# Altium schematic symbol library Arkx.SchLib: 534 symbols (part 2 of 5)
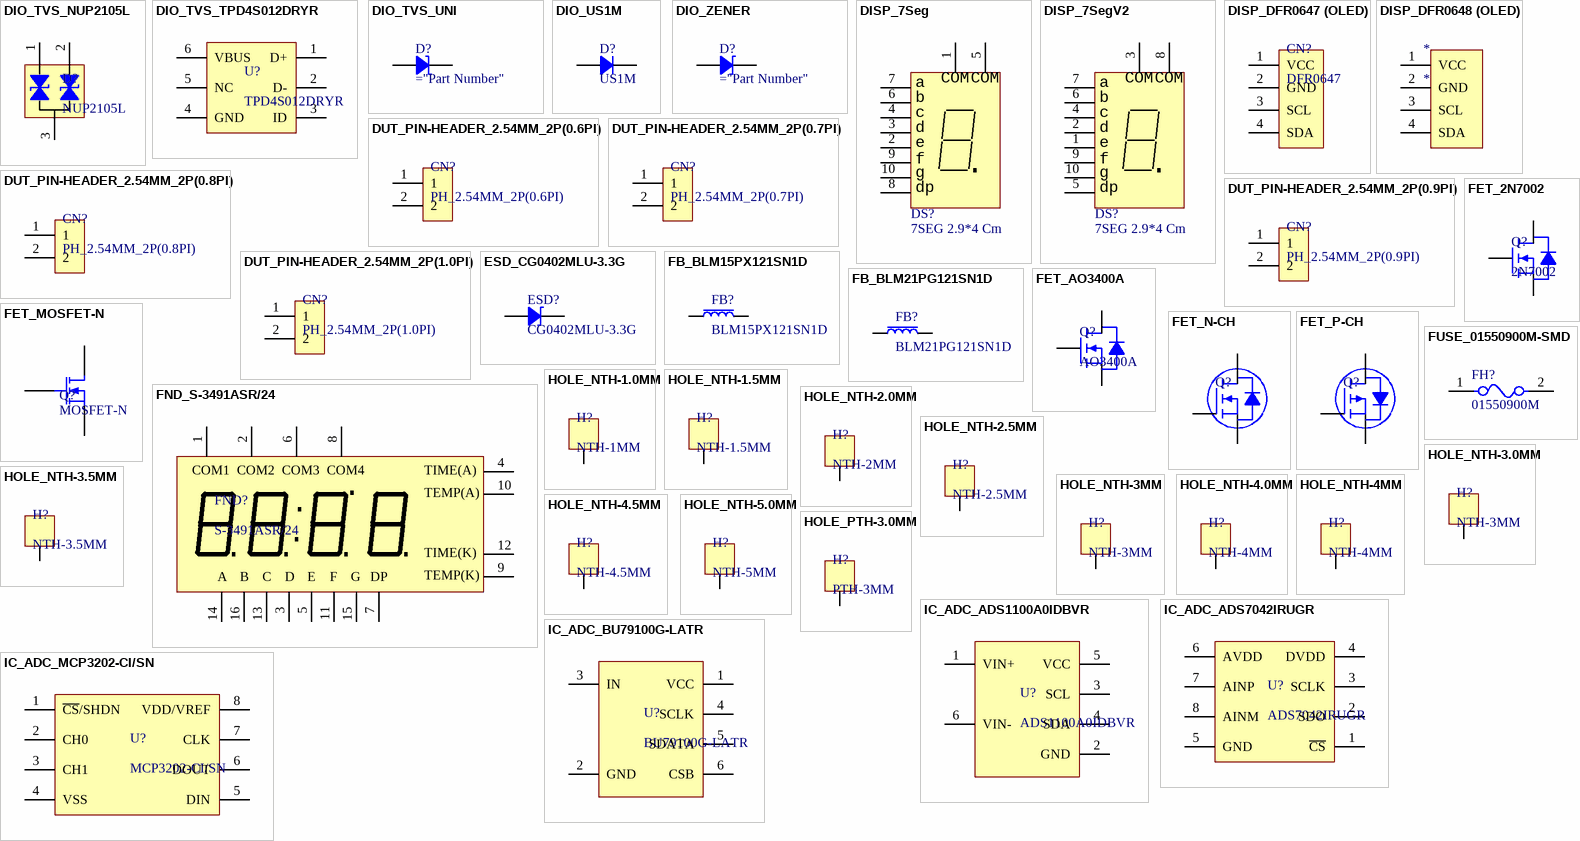
[diagram p26: symbols DIO_TVS_NUP2105L to IC_ADC_MCP3202-CI/SN]

## DISP_7Seg
designator DS?, comment 7SEG 2.9*4 Cm
Common Anode Seven-Segment Display, Right Hand Decimal; ASiD Part Number: 7Seg-AS
footprint DISP_7seg_42X29
footprint DISP_7Seg_70X48
footprint DISP_7seg_44X30.6
pins: 1 COM (power), 2 e, 3 d, 4 c, 5 COM (power), 6 b, 7 a, 8 dp, 9 f, 10 g

## DISP_7SegV2
designator DS?, comment 7SEG 2.9*4 Cm
Common Anode Seven-Segment Display, Right Hand Decimal; ASiD Part Number: 7Seg-AS
footprint 7seg_33.8X23.8
pins: 1 e, 2 d, 3 COM (power), 4 c, 5 dp, 6 b, 7 a, 8 COM (power), 9 f, 10 g

## DISP_DFR0647 (OLED)
designator CN?, comment DFR0647
DFR0647 / 128x32 I2C OLED Display / Control Chip : SSD1306
footprint DISP DFR0647 (OLED)
pins: 1 VCC, 2 GND, 3 SCL, 4 SDA

## DISP_DFR0648 (OLED)
designator *
pins: 1 VCC, 2 GND, 3 SCL, 4 SDA

## DUT_PIN-HEADER_2.54MM_2P(0.6PI)
designator CN?, comment PH_2.54MM_2P(0.6PI)
footprint DUT_CON_PIN_HEADER-2PIN(2.54MM)_0.6PI (Pin Header 2P 2.54mm)
pins: 1, 2

## DUT_PIN-HEADER_2.54MM_2P(0.7PI)
designator CN?, comment PH_2.54MM_2P(0.7PI)
footprint DUT_CON_PIN_HEADER-2PIN(2.54MM)_0.7PI (Pin Header 2P 2.54mm)
pins: 1, 2

## DUT_PIN-HEADER_2.54MM_2P(0.8PI)
designator CN?, comment PH_2.54MM_2P(0.8PI)
footprint DUT_CON_PIN_HEADER-2PIN(2.54MM)_0.8PI (Pin Header 2P 2.54mm)
pins: 1, 2

## DUT_PIN-HEADER_2.54MM_2P(0.9PI)
designator CN?, comment PH_2.54MM_2P(0.9PI)
footprint DUT_CON_PIN_HEADER-2PIN(2.54MM)_0.9PI (Pin Header 2P 2.54mm)
pins: 1, 2

## DUT_PIN-HEADER_2.54MM_2P(1.0PI)
designator CN?, comment PH_2.54MM_2P(1.0PI)
footprint DUT_CON_PIN_HEADER-2PIN(2.54MM)_1.0PI (Pin Header 2P 2.54mm)
pins: 1, 2

## ESD_CG0402MLU-3.3G
designator ESD?, comment CG0402MLU-3.3G
Varistor 1 Circuit Surface Mount, MLCV 0402 (1005 Metric); LCSC Part #: C2655393; JLCPCB Part Type: Extended Part
footprint RES 1005 (0402_inch) (Chip Resistor, 2-Leads, Body 1.0x0.5mm, IPC Medium Density)
pins: 1, 2

## FB_BLM15PX121SN1D
designator FB?, comment BLM15PX121SN1D
55mΩ ±25% 120Ω@100MHz 0402  Ferrite Beads ROHS; LCSC Part #: C88970; JLCPCB Part Type: Extended Part
footprint FB 1005 (0402_inch) (Chip Ferrite Bead, 2-Leads, Body 1.0x0.5mm, IPC Medium Density)
pins: 1, 2

## FB_BLM21PG121SN1D
designator FB?, comment BLM21PG121SN1D
3A 1 30mΩ 120Ω@100MHz ±25% 0805  Ferrite Beads ROHS; LCSC Part #: C79382; JLCPCB Part Type: Extended Part
footprint FB 2012 (0805_inch) (Chip Ferrite Bead, 2-Leads, Body 2.00x1.25mm, IPC Medium Density)
pins: 1, 2

## FET_2N7002
designator Q?, comment 2N7002
60V 115mA 200mW 7.5Ω@10V,500mA N Channel SOT-23  MOSFETs ROHS; LCSC Part #: C8545; JLCPCB Part Type: Basic Part
footprint SOT 23-3 (DIODES INCORPORATED) (SOT23, 3-Leads, Body 2.90x2.40mm, Pitch 0.95mm, IPC Medium Density)
pins: 1 G, 2 S, 3 D

## FET_AO3400A
designator Q?, comment AO3400A
30V 5.7A 26.5mΩ@10V,5.7A 1.4W N Channel SOT-23-3L  MOSFETs ROHS; LCSC Part #: C20917; JLCPCB Part Type: Basic Part
footprint SOT 23-3 (DIODES INCORPORATED) (SOT23, 3-Leads, Body 2.90x2.40mm, Pitch 0.95mm, IPC Medium Density)
pins: 1 G, 2 S, 3 D

## FET_MOSFET-N
designator Q?, comment MOSFET-N
N-Channel MOSFET; Published: 8-Jun-2000; LatestRevisionDate: 17-Jul-2002; LatestRevisionNote: Re-released for DXP Platform.; PackageVersion: 1995/1996; PackageReference: E3; Publisher: Altium Limited; PackageDescription: TO, Flat Index; 3 In-Line, Axial Leads; Body Dia. 4.6mm; Lead Dia. 0.5 mm (max)
footprint TO-220AB (TO, Thru-Hole, Vertical, Heatsink Mounted; 3 In-Line Leads; Pitch 2.54 mm)
simulation model NMOS (MOSFET-N)
footprint TO-262 (TO, Thru-Hole, Vertical, Heatsink Mounted; 3 In-Line Leads; Pitch 2.54 mm)
footprint TO220-Reverse
pins: 1 G, 2 D, 3 S

## FET_N-CH
designator Q?
pins: 1 G, 2 D, 3 S, 4 D

## FET_P-CH
designator Q?
pins: 1 G, 2 D, 3 S, 4 D

## FND_S-3491ASR/24
designator FND?, comment S-3491ASR/24
4-digit FND(Red) / Vf=1.8V / IFmax = 30mA / 100mW
pins: 1 DIG1_COM, 2 DIG2_COM, 3 D, 4 TIME_DOT(A), 5 E, 6 COM3_COM, 7 DP, 8 DIG4_COM, 9 TEMP_DOT(K), 10 TEMP_DOT(A), 11 F, 12 TIME_DOT(K), 13 C, 14 A, 15 G, 16 B
text: COM1; COM2; COM3; COM4; TIME(A); TEMP(A); TIME(K); TEMP(K)

## FUSE_01550900M-SMD
designator FH?, comment 01550900M
Fuse Block 10A 125V 1 Circuit Cartridge Surface Mount; LCSC Part #: C108518; JLCPCB Part Type: Extended Part
footprint FUSE 01550900M_SMD (Fuse Holder)
pins: 1, 2

## HOLE_NTH-1.0MM
designator H?, comment NTH-1MM
Non-Through Hole 1mm
footprint HOLE_NTH-1.0MM
pins: 1

## HOLE_NTH-1.5MM
designator H?, comment NTH-1.5MM
Non-Through Hole 1.5mm
footprint HOLE_NTH-1.5MM
pins: 1

## HOLE_NTH-2.0MM
designator H?, comment NTH-2MM
Non-Through Hole 2mm
footprint HOLE_NTH-2.0MM
pins: 1

## HOLE_NTH-2.5MM
designator H?, comment NTH-2.5MM
Non-Through Hole 2.5mm
footprint HOLE_NTH-2.5MM
pins: 1

## HOLE_NTH-3.0MM
designator H?, comment NTH-3MM
Non-Through Hole 3mm
footprint HOLE_NTH-3.0MM
pins: 1

## HOLE_NTH-3.5MM
designator H?, comment NTH-3.5MM
Non-Through Hole 3.5mm
footprint HOLE_NTH-3.5MM
pins: 1

## HOLE_NTH-3MM
designator H?, comment NTH-3MM
Non-Through Hole 3mm
footprint HOLE NTH-3MM (NON-THROUGH HOLE 3MM)
pins: 1

## HOLE_NTH-4.0MM
designator H?, comment NTH-4MM
Non-Through Hole 4mm
footprint HOLE_NTH-4.0MM
pins: 1

## HOLE_NTH-4.5MM
designator H?, comment NTH-4.5MM
Non-Through Hole 4.5mm
footprint HOLE_NTH-4.5MM
pins: 1

## HOLE_NTH-4MM
designator H?, comment NTH-4MM
Non-Through Hole 4mm
footprint HOLE NTH-4MM (NON-THROUGH HOLE 4MM)
pins: 1

## HOLE_NTH-5.0MM
designator H?, comment NTH-5MM
Non-Through Hole 5mm
footprint HOLE_NTH-5.0MM
pins: 1

## HOLE_PTH-3.0MM
designator H?, comment PTH-3MM
Plated-Through Hole 3mm
footprint HOLE PTH-3MM (PLATED-THROUGH HOLE 3MM)
pins: 1

## IC_ADC_ADS1100A0IDBVR
designator U?, comment ADS1100A0IDBVR
IC ADC 16BIT SIGMA-DELTA SOT23-6; LCSC Part #: C23361; JLCPCB Part Type: Extended Part
footprint SOT-23-6 (TI DBV PACKAGE) (SOT23, 6-Leads, Body 2.90x2.80mm, Pitch 0.95mm, IPC Medium Density)
pins: 1 VIN+, 2 GND, 3 SCL, 4 SDA, 5 VCC, 6 VIN-

## IC_ADC_ADS7042IRUGR
designator U?, comment ADS7042IRUGR
12Bit 1.65V~3.6V 1MHz SPI X2-QFN-8(1.5x1.5)  Analog To Digital Converters (ADCs) ROHS; JLCPCB Part Type: Extended Part; LCSC Part #: C701642
pins: 1 ~{CS}, 2 SDO, 3 SCLK, 4 DVDD, 5 GND, 6 AVDD, 7 AINP, 8 AINM

## IC_ADC_BU79100G-LATR
designator U?, comment BU79100G-LATR
Successive Approximation A/D Converter / 12 bit, 0.5 MSPS to 1 MSPS, 2.7 V to 5.25 V, / 1-channel, SPI Interface; LCSC Part #: None; JLCPCB Part Type: None
footprint IC_SOT-23-6 (SOT23, 6-Leads, Body 2.90x2.80mm, Pitch 0.95mm, IPC Medium Density)
pins: 1 VCC, 2 GND, 3 IN, 4 SCLK, 5 SDATA, 6 CSB

## IC_ADC_MCP3202-CI/SN
designator U?, comment MCP3202-CI/SN
2.7V~5.5V Dual Channel 12-Bit A/D Converter with SPI Serial Interface / SOIC-8; LCSC Part #: C56997; JLCPCB Part Type: Extended Part
footprint SOIC-8 150mil Wide (MICRO CHIP) (SOIC, 8-Leads, Body 4.90x3.90mm, Pitch 1.27mm, IPC Medium Density)
pins: 1 ~{CS}/SHDN, 2 CH0, 3 CH1, 4 VSS, 5 DIN, 6 DOUT, 7 CLK, 8 VDD/VREF

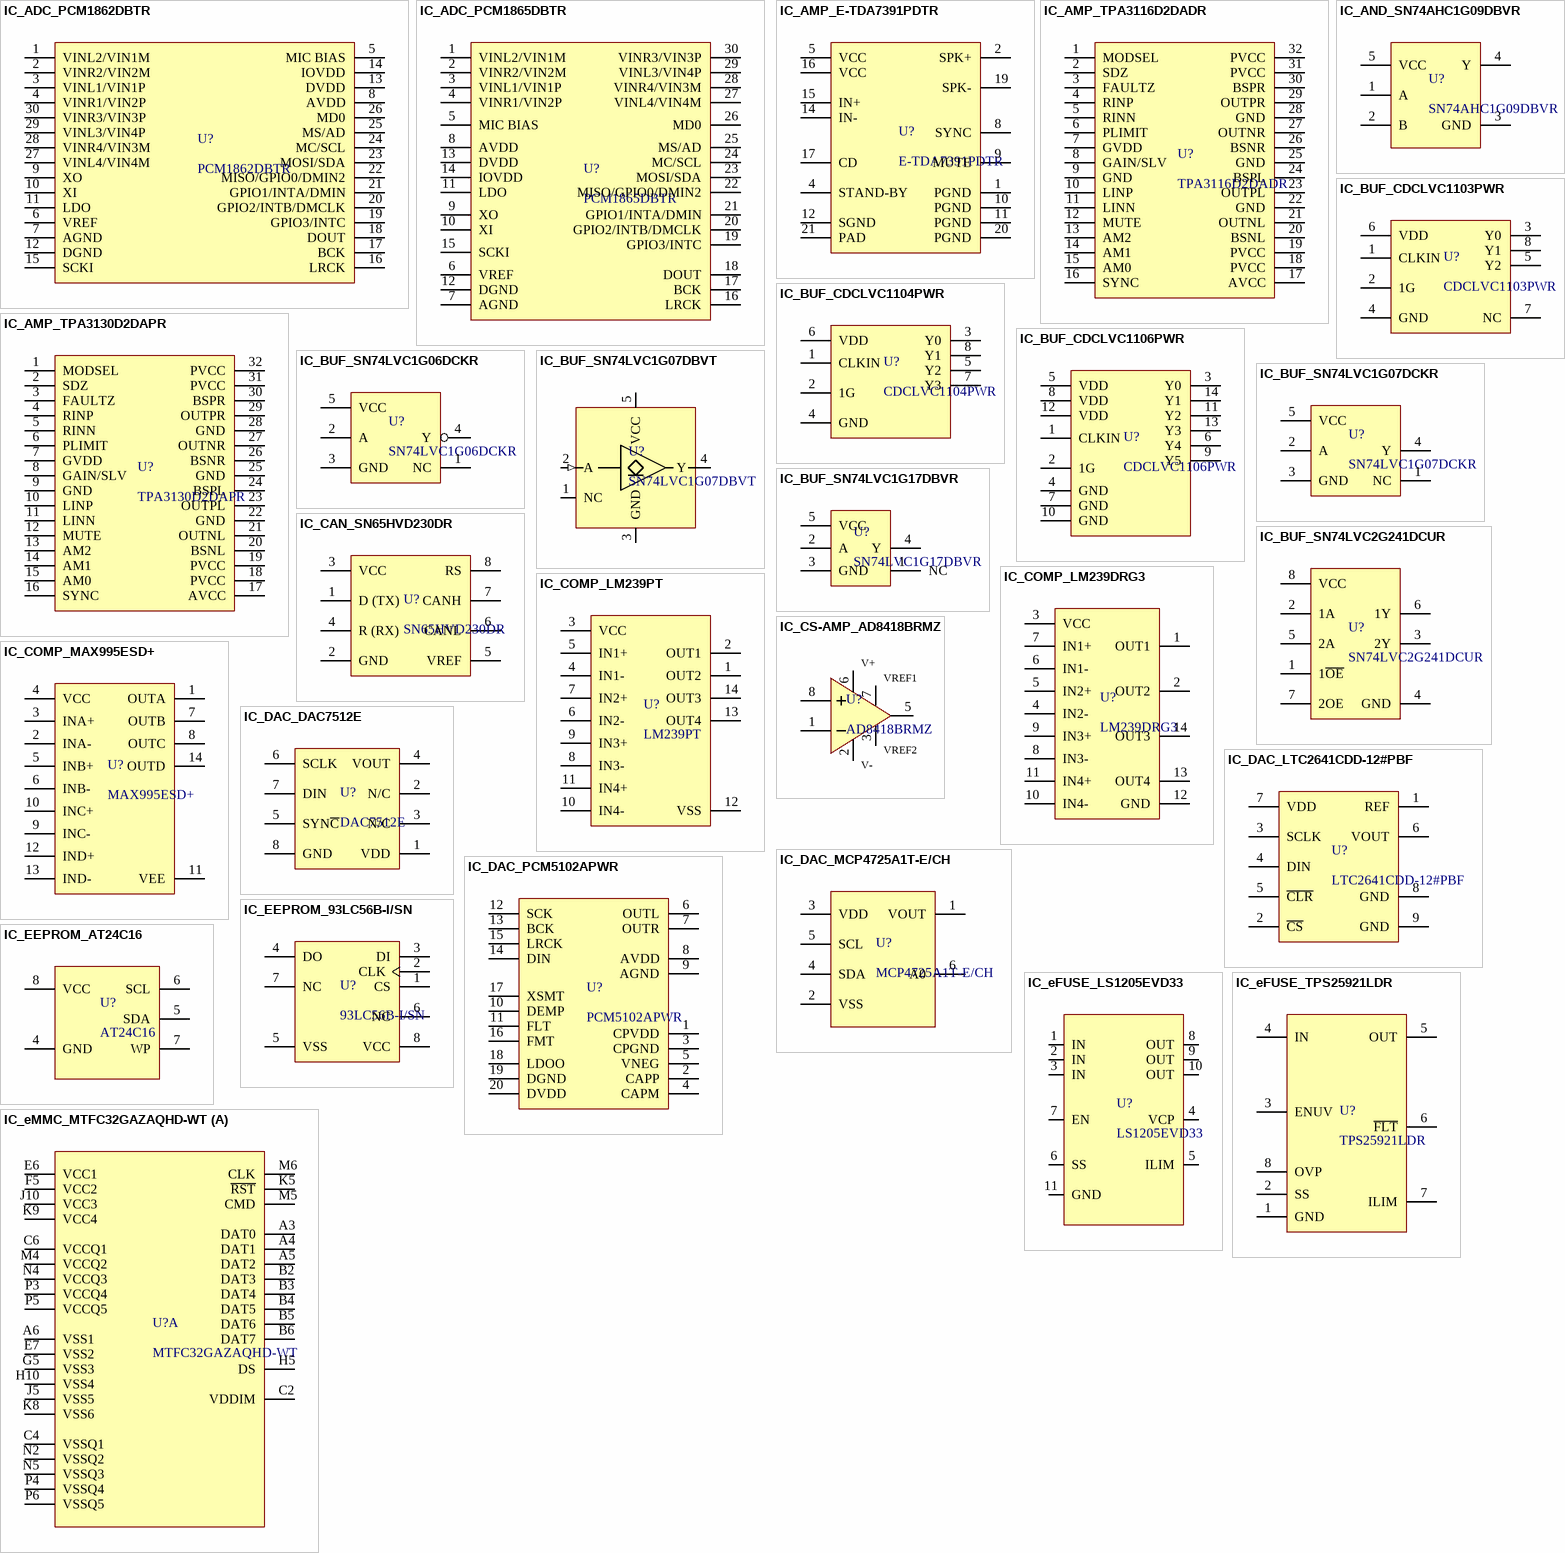
[diagram p7: symbols IC_ADC_PCM1862DBTR to IC_eMMC_MTFC32GAZAQHD-WT]

## IC_ADC_PCM1862DBTR
designator U?, comment PCM1862DBTR
IC ADC/AUDIO 24BIT 192K 30TSSOP; LCSC Part #: C544647; JLCPCB Part Type: Extended Part
pins: 1 VINL2/VIN1M, 2 VINR2/VIN2M, 3 VINL1/VIN1P, 4 VINR1/VIN2P, 5 MIC BIAS, 6 VREF, 7 AGND, 8 AVDD, 9 XO, 10 XI, 11 LDO, 12 DGND, 13 DVDD, 14 IOVDD, 15 SCKI, 16 LRCK, 17 BCK, 18 DOUT, 19 GPIO3/INTC, 20 GPIO2/INTB/DMCLK, 21 GPIO1/INTA/DMIN, 22 MISO/GPIO0/DMIN2, 23 MOSI/SDA, 24 MC/SCL, 25 MS/AD, 26 MD0, 27 VINL4/VIN4M, 28 VINR4/VIN3M, 29 VINL3/VIN4P, 30 VINR3/VIN3P

## IC_ADC_PCM1865DBTR
designator U?, comment PCM1865DBTR
Audio A/D Converter ICs S/W Controlled 110dB 4ch Audio ADC; LCSC Part #: C181312; JLCPCB Part Type: Extended Part
footprint TSSOP-30_DBT0030A (TI) (TSSOP Package , 30-Leades, 4.40 x 7.80 mm Body , Pitch 0.50 mm)
pins: 1 VINL2/VIN1M, 2 VINR2/VIN2M, 3 VINL1/VIN1P, 4 VINR1/VIN2P, 5 MIC BIAS, 6 VREF, 7 AGND, 8 AVDD, 9 XO, 10 XI, 11 LDO, 12 DGND, 13 DVDD, 14 IOVDD, 15 SCKI, 16 LRCK, 17 BCK, 18 DOUT, 19 GPIO3/INTC, 20 GPIO2/INTB/DMCLK, 21 GPIO1/INTA/DMIN, 22 MISO/GPIO0/DMIN2, 23 MOSI/SDA, 24 MC/SCL, 25 MS/AD, 26 MD0, 27 VINL4/VIN4M, 28 VINR4/VIN3M, 29 VINL3/VIN4P, 30 VINR3/VIN3P

## IC_AMP_E-TDA7391PDTR
designator U?, comment E-TDA7391PDTR
Audio Amp Speaker 1-CH Mono 40W Class-AB Automotive 20-Pin PowerSO T/R
pins: 1 PGND, 2 SPK+, 4 STAND-BY, 5 VCC, 8 SYNC, 9 MUTE, 10 PGND, 11 PGND, 12 SGND, 14 IN-, 15 IN+, 16 VCC, 17 CD, 19 SPK-, 20 PGND, 21 PAD

## IC_AMP_TPA3116D2DADR
designator U?, comment TPA3116D2DADR
50-W stereo, 100-W mono, 4.5- to 26-V supply, analog input Class-D audio amplifier w/ SpeakerGuard™; LCSC Part #: C50144; JLCPCB Part Type: Extended Part
pins: 1 MODSEL, 2 SDZ, 3 FAULTZ, 4 RINP, 5 RINN, 6 PLIMIT, 7 GVDD, 8 GAIN/SLV, 9 GND, 10 LINP, 11 LINN, 12 MUTE, 13 AM2, 14 AM1, 15 AM0, 16 SYNC, 17 AVCC, 18 PVCC, 19 PVCC, 20 BSNL, 21 OUTNL, 22 GND, 23 OUTPL, 24 BSPL, 25 GND, 26 BSNR, 27 OUTNR, 28 GND, 29 OUTPR, 30 BSPR, 31 PVCC, 32 PVCC

## IC_AMP_TPA3130D2DAPR
designator U?, comment TPA3130D2DAPR
15-W stereo, 30-W mono, 4.5- to 26-V supply, analog input Class-D audio amplifier w/ filter free; LCSC Part #: C95206; JLCPCB Part Type: Extended Part
footprint HTSSOP-32_DAP (TI)
pins: 1 MODSEL, 2 SDZ, 3 FAULTZ, 4 RINP, 5 RINN, 6 PLIMIT, 7 GVDD, 8 GAIN/SLV, 9 GND, 10 LINP, 11 LINN, 12 MUTE, 13 AM2, 14 AM1, 15 AM0, 16 SYNC, 17 AVCC, 18 PVCC, 19 PVCC, 20 BSNL, 21 OUTNL, 22 GND, 23 OUTPL, 24 BSPL, 25 GND, 26 BSNR, 27 OUTNR, 28 GND, 29 OUTPR, 30 BSPR, 31 PVCC, 32 PVCC

## IC_AND_SN74AHC1G09DBVR
designator U?, comment SN74AHC1G09DBVR
AND Gate IC 1 Channel Open Drain SOT-23-5; LCSC Part #: C840099; JLCPCB Part Type: Extended Part
footprint SOT-23-5 (TI DBV PACKAGE) (SOT23, 5-Leads, Body 2.90x2.80mm, Pitch 0.95mm, IPC Medium Density)
pins: 1 A, 2 B, 3 GND, 4 Y, 5 VCC

## IC_BUF_CDCLVC1103PWR
designator U?, comment CDCLVC1103PWR
Low jitter, 1:3 LVCMOS fan-out clock buffer; LCSC Part #: C555453; JLCPCB Part Type: Extended Part
footprint TSSOP-8_PW (TI) (TSSOP, 8-Leads, Body 3.00x4.40mm, Pitch 0.65mm, IPC Medium Density)
pins: 1 CLKIN, 2 1G, 3 Y0, 4 GND, 5 Y2, 6 VDD, 7 NC, 8 Y1

## IC_BUF_CDCLVC1104PWR
designator U?, comment CDCLVC1104PWR
Low jitter, 1:4 LVCMOS fan-out clock buffer; LCSC Part #: C485518; JLCPCB Part Type: Extended Part
pins: 1 CLKIN, 2 1G, 3 Y0, 4 GND, 5 Y2, 6 VDD, 7 Y3, 8 Y1

## IC_BUF_CDCLVC1106PWR
designator U?, comment CDCLVC1106PWR
Low jitter, 1:6 LVCMOS fan-out clock buffer; LCSC Part #: C56506; JLCPCB Part Type: Extended Part
pins: 1 CLKIN, 2 1G, 3 Y0, 4 GND, 5 VDD, 6 Y4, 7 GND, 8 VDD, 9 Y5, 10 GND, 11 Y2, 12 VDD, 13 Y3, 14 Y1

## IC_BUF_SN74LVC1G06DCKR
designator U?, comment SN74LVC1G06DCKR
Inverter IC 1 Channel Open Drain SC-70-5; LCSC Part #: C7828; JLCPCB Part Type: Extended Part
footprint IC_SC-70-5
pins: 1 NC, 2 A, 3 GND, 4 Y, 5 VCC

## IC_BUF_SN74LVC1G07DBVT
designator U?, comment SN74LVC1G07DBVT
Single Buffer/Driver With Open-Drain Output / IC BUF NON-INVERT 5.5V SOT23-5; LCSC Part #: C2867373; JLCPCB Part Type: Extended Part
footprint SOT-23-5 (TI DBV PACKAGE) (SOT23, 5-Leads, Body 2.90x2.80mm, Pitch 0.95mm, IPC Medium Density)
pins: 1 NC, 2 A (in), 3 GND (power), 4 Y (oc), 5 VCC (power)

## IC_BUF_SN74LVC1G07DCKR
designator U?, comment SN74LVC1G07DCKR
Buffer, Non-Inverting 1 Element 1 Bit per Element Open Drain Output SC-70-5; LCSC Part #: C7830; JLCPCB Part Type: Extended Part
footprint IC_SC-70-5
pins: 1 NC, 2 A, 3 GND, 4 Y, 5 VCC

## IC_BUF_SN74LVC1G17DBVR
designator U?, comment SN74LVC1G17DBVR
IC BUF NON-INVERT 5.5V SOT23-5
footprint SOT-23-5 (TI DBV PACKAGE) (SOT23, 5-Leads, Body 2.90x2.80mm, Pitch 0.95mm, IPC Medium Density)
pins: 1 NC, 2 A, 3 GND, 4 Y, 5 VCC

## IC_BUF_SN74LVC2G241DCUR
designator U?, comment SN74LVC2G241DCUR
Buffer, Non-Inverting 2 Element 1 Bit per Element 3-State Output 8-VSSOP; LCSC Part #: C10430; JLCPCB Part Type: Extended Part
footprint IC_VSSOP-8
pins: 1 1~{OE}, 2 1A, 3 2Y, 4 GND, 5 2A, 6 1Y, 7 2OE, 8 VCC

## IC_CAN_SN65HVD230DR
designator U?, comment SN65HVD230DR
IC TRANSCEIVER HALF 1/1 8SOIC; LCSC Part #: C12084; JLCPCB Part Type: Basic Part
footprint SOIC-8 R8 (ANALOG DEV) (SOIC, 8-Leads, Body 4.90x3.90mm, Pitch 1.27mm, IPC Medium Density)
pins: 1 D (TX), 2 GND, 3 VCC, 4 R (RX), 5 VREF, 6 CANL, 7 CANH, 8 RS

## IC_COMP_LM239DRG3
designator U?, comment LM239DRG3
IC COMPARATOR DIFF QUAD 14SOIC
footprint SOIC-14 (TI D package) (SOP, 14-Leads, Body 8.65x3.90mm, Pitch 1.27mm, IPC Medium Density)
pins: 1 OUT1, 2 OUT2, 3 VCC, 4 IN2-, 5 IN2+, 6 IN1-, 7 IN1+, 8 IN3-, 9 IN3+, 10 IN4-, 11 IN4+, 12 GND, 13 OUT4, 14 OUT3

## IC_COMP_LM239PT
designator U?, comment LM239PT
IC COMPARTR QUAD BIPOLAR 14TSSOP; LCSC Part #: C283294; JLCPCB Part Type: Extended Part
footprint TSSOP-14 (TSSOP, 14-Leads, Body 5.00x4.40mm, Pitch 0.65mm, IPC Medium Density)
pins: 1 OUT2, 2 OUT1, 3 VCC, 4 IN1-, 5 IN1+, 6 IN2-, 7 IN2+, 8 IN3-, 9 IN3+, 10 IN4-, 11 IN4+, 12 VSS, 13 OUT4, 14 OUT3

## IC_COMP_MAX995ESD+
designator U?, comment MAX995ESD+
IC COMPARATOR R-R 14-SOIC High-Speed, Micropower, Low-Voltage, / Rail-to-Rail I/O Comparators; LCSC Part #: C236833; JLCPCB Part Type: Extended Part
footprint SOIC-14 (TI D package) (SOP, 14-Leads, Body 8.65x3.90mm, Pitch 1.27mm, IPC Medium Density)
pins: 1 OUTA, 2 INA-, 3 INA+, 4 VCC, 5 INB+, 6 INB-, 7 OUTB, 8 OUTC, 9 INC-, 10 INC+, 11 VEE, 12 IND+, 13 IND-, 14 OUTD

## IC_CS-AMP_AD8418BRMZ
designator U?, comment AD8418BRMZ
Current Sense Amplifiers Zero Drift ,Precision Current Sense AMP / MSOP-8; LCSC Part #: C147928; JLCPCB Part Type: Extended Part
footprint MSOP-8 DGN (TI) (MSOP, 8-Leads, Body 3.1x3.1mm (max), Pitch 0.65mm, IPC Medium Density)
pins: 1 IN-, 2 GND, 3 VREF2, 5 OUT, 6 VS, 7 VREF1, 8 IN+
text: V+; V-

## IC_DAC_DAC7512E
designator U?, comment DAC7512E
Low-Power, Rail-to-Rail Output, 12-Bit Serial Input DIGITAL-TO-ANALOG CONVERTER / VDD : 2.7 ~ 5.5V / MSOP-8
footprint MSOP-8 DGN (TI) (MSOP, 8-Leads, Body 3.1x3.1mm (max), Pitch 0.65mm, IPC Medium Density)
pins: 1 VDD, 2 N/C, 3 N/C, 4 VOUT, 5 SYN~{C}, 6 SCLK, 7 DIN, 8 GND

## IC_DAC_LTC2641CDD-12#PBF
designator U?, comment LTC2641CDD-12#PBF
1us SPI 2.7V~5.5V ±0.5LSB 12Bit DFN-8-EP(3x3)  Digital To Analog Converters (DACs) ROHS; JLCPCB Part Type: Extended Part; LCSC Part #: C682333
pins: 1 REF, 2 ~{CS}, 3 SCLK, 4 DIN, 5 ~{CLR}, 6 VOUT, 7 VDD, 8 GND, 9 GND

## IC_DAC_MCP4725A1T-E/CH
designator U?, comment MCP4725A1T-E/CH
IC DAC 12BIT V-OUT SOT23-6; LCSC Part #: C61423; JLCPCB Part Type: Extended Part
footprint SOT-23-6 (TI DBV PACKAGE) (SOT23, 6-Leads, Body 2.90x2.80mm, Pitch 0.95mm, IPC Medium Density)
pins: 1 VOUT, 2 VSS, 3 VDD, 4 SDA, 5 SCL, 6 A0

## IC_DAC_PCM5102APWR
designator U?, comment PCM5102APWR
2VRMS DirectPath™, 112dB Audio Stereo DAC with 32-bit, 384kHz PCM Interface; LCSC Part #: C107671; JLCPCB Part Type: Extended Part
footprint TSSOP-20 PW (TI) (TSSOP, 20-Leads, Body 6.50x4.40mm, Pitch 0.65mm, IPC Medium Density)
pins: 1 CPVDD, 2 CAPP, 3 CPGND, 4 CAPM, 5 VNEG, 6 OUTL, 7 OUTR, 8 AVDD, 9 AGND, 10 DEMP, 11 FLT, 12 SCK, 13 BCK, 14 DIN, 15 LRCK, 16 FMT, 17 XSMT, 18 LDOO, 19 DGND, 20 DVDD

## IC_EEPROM_93LC56B-I/SN
designator U?, comment 93LC56B-I/SN
EEPROM Memory IC 2Kbit Microwire 2 MHz 8-SOIC; LCSC Part #: C183620; JLCPCB Part Type: Extended Part
footprint IC_SOIC-8 (4.90x3.90mm) (SOIC, 8-Leads, Body 4.90x3.90mm, Pitch 1.27mm, IPC Medium Density)
pins: 1 CS, 2 CLK, 3 DI, 4 DO, 5 VSS, 6 NC, 7 NC, 8 VCC

## IC_EEPROM_AT24C16
designator U?, comment AT24C16
IC EEPROM 16KBIT I2C 1MHZ 8TSSOP; LCSC Part #: C112954; JLCPCB Part Type: Extended Part
footprint TSSOP-8_PW (TI) (TSSOP, 8-Leads, Body 3.00x4.40mm, Pitch 0.65mm, IPC Medium Density)
pins: 4 GND, 5 SDA, 6 SCL, 7 WP, 8 VCC

## IC_eFUSE_LS1205EVD33
designator U?, comment LS1205EVD33
18V, 5A eFuse with Programmable Current Limit and Output Voltage Clamp, 10-DFN (3x3); LCSC Part #: C6653278; JLCPCB Part Type: Extended Part
footprint IC_DFN_3x3_10L
pins: 1 IN (power), 2 IN (power), 3 IN (power), 4 VCP, 5 ILIM, 6 SS, 7 EN, 8 OUT (power), 9 OUT (power), 10 OUT (power), 11 GND (power)

## IC_eFUSE_TPS25921LDR
designator U?, comment TPS25921LDR
4.5V - 18V, 1.6A eFuse with Precise Current Limit and Over Voltage Protection / 8SOIC
footprint SOIC-8 R8 (ANALOG DEV) (SOIC, 8-Leads, Body 4.90x3.90mm, Pitch 1.27mm, IPC Medium Density)
pins: 1 GND, 2 SS, 3 ENUV, 4 IN, 5 OUT, 6 ~{FLT}, 7 ILIM, 8 OVP

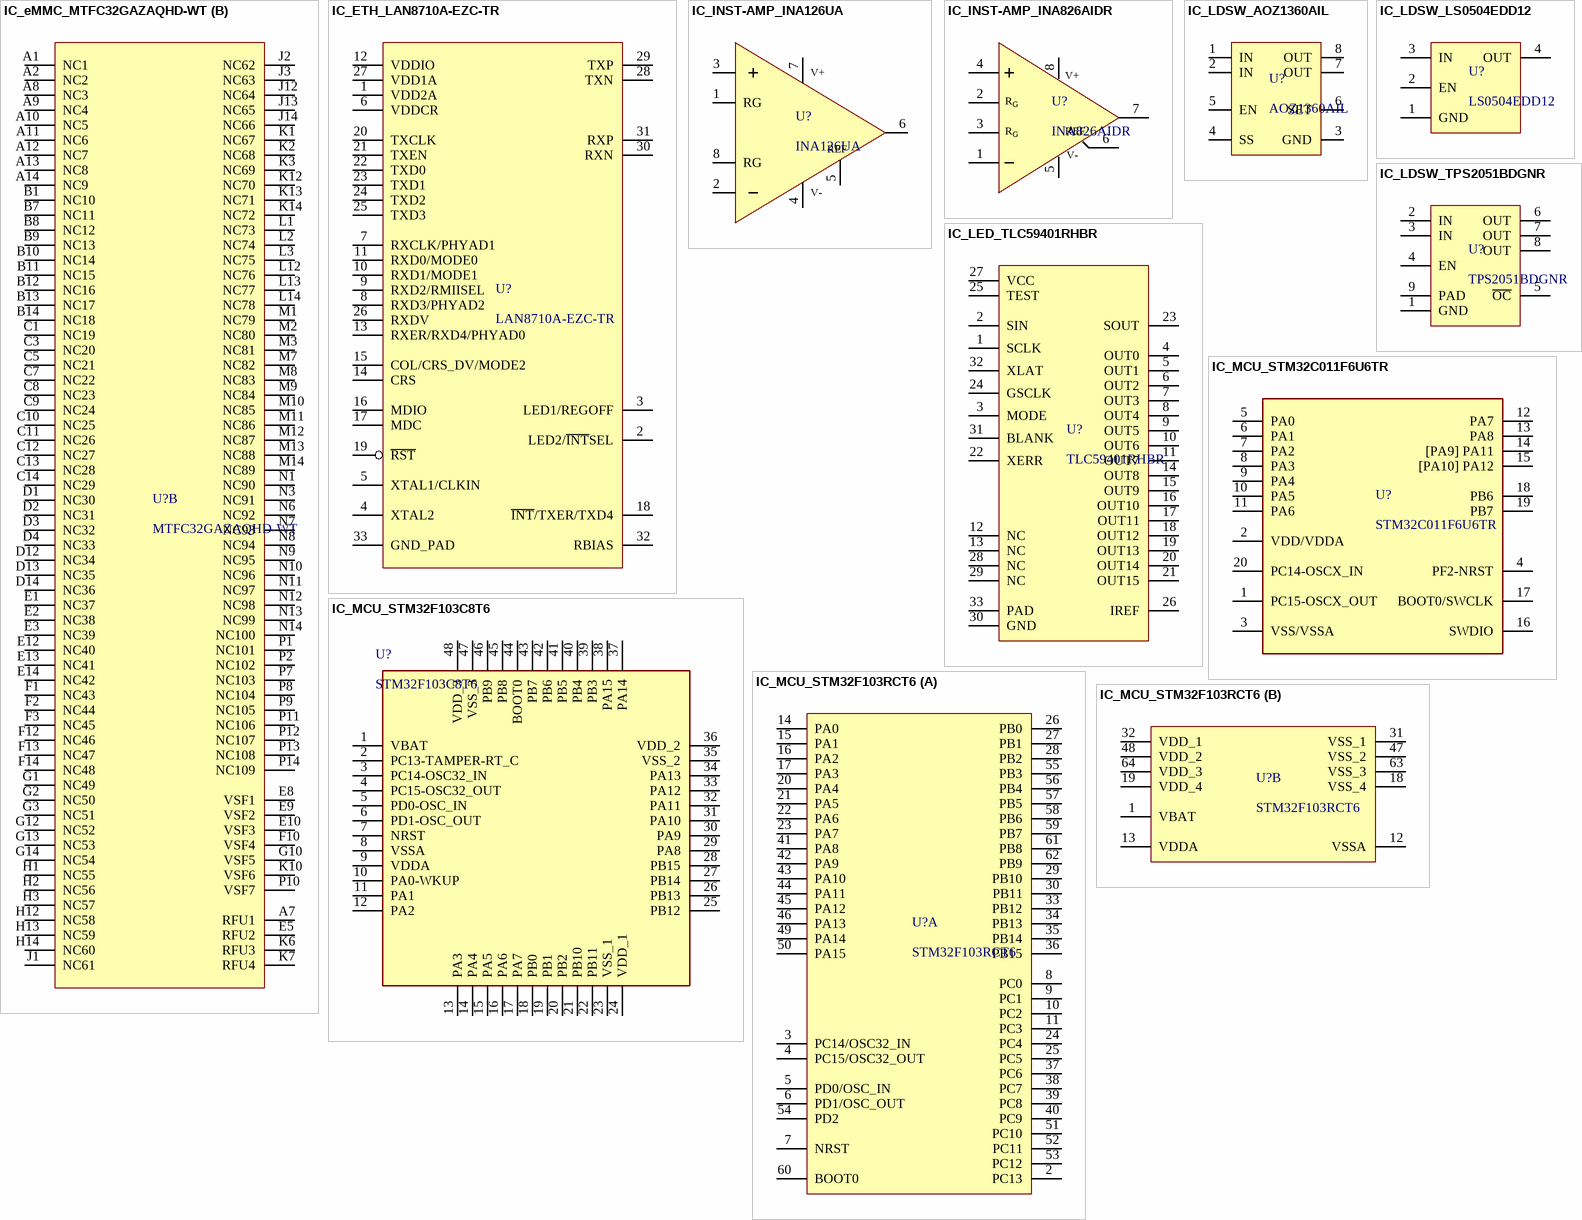
[diagram p8: symbols IC_eMMC_MTFC32GAZAQHD-WT to IC_MCU_STM32F103RCT6]

## IC_eMMC_MTFC32GAZAQHD-WT
designator U?, comment MTFC32GAZAQHD-WT
FLASH - NAND Memory IC 256Gbit MMC 200 MHz 153-VFBGA (11.5x13); LCSC Part #: C5330430; JLCPCB Part Type: Extended Part
footprint IC_VFBGA-153 (Footprint for MTFC32GAZAQHD-AIT)
part A pins: A3 DAT0, A4 DAT1, A5 DAT2, A6 VSS1, B2 DAT3, B3 DAT4, B4 DAT5, B5 DAT6, B6 DAT7, C2 VDDIM, C4 VSSQ1, C6 VCCQ1, E6 VCC1, E7 VSS2, F5 VCC2, G5 VSS3, H5 DS, H10 VSS4, J5 VSS5, J10 VCC3, K5 ~{RST}, K8 VSS6, K9 VCC4, M4 VCCQ2, M5 CMD, M6 CLK, N2 VSSQ2, N4 VCCQ3, N5 VSSQ3, P3 VCCQ4, P4 VSSQ4, P5 VCCQ5, P6 VSSQ5
part B pins: A1 NC1, A2 NC2, A7 RFU1, A8 NC3, A9 NC4, A10 NC5, A11 NC6, A12 NC7, A13 NC8, A14 NC9, B1 NC10, B7 NC11, B8 NC12, B9 NC13, B10 NC14, B11 NC15, B12 NC16, B13 NC17, B14 NC18, C1 NC19, C3 NC20, C5 NC21, C7 NC22, C8 NC23, C9 NC24, C10 NC25, C11 NC26, C12 NC27, C13 NC28, C14 NC29, D1 NC30, D2 NC31, D3 NC32, D4 NC33, D12 NC34, D13 NC35, D14 NC36, E1 NC37, E2 NC38, E3 NC39, E5 RFU2, E8 VSF1, E9 VSF2, E10 VSF3, E12 NC40, E13 NC41, E14 NC42, F1 NC43, F2 NC44, F3 NC45, F10 VSF4, F12 NC46, F13 NC47, F14 NC48, G1 NC49, G2 NC50, G3 NC51, G10 VSF5, G12 NC52, G13 NC53, G14 NC54, H1 NC55, H2 NC56, H3 NC57, H12 NC58, H13 NC59, H14 NC60, J1 NC61, J2 NC62, J3 NC63, J12 NC64, J13 NC65, J14 NC66, K1 NC67, K2 NC68, K3 NC69, K6 RFU3, K7 RFU4, K10 VSF6, K12 NC70, K13 NC71, K14 NC72, L1 NC73, L2 NC74, L3 NC75, L12 NC76, L13 NC77, L14 NC78, M1 NC79, M2 NC80, M3 NC81, M7 NC82, M8 NC83, M9 NC84, M10 NC85, M11 NC86, M12 NC87, M13 NC88, M14 NC89, N1 NC90, N3 NC91, N6 NC92, N7 NC93, N8 NC94, N9 NC95, N10 NC96, N11 NC97, N12 NC98, N13 NC99, N14 NC100, P1 NC101, P2 NC102, P7 NC103, P8 NC104, P9 NC105, P10 VSF7, P11 NC106, P12 NC107, P13 NC108, P14 NC109

## IC_ETH_LAN8710A-EZC-TR
designator U?, comment LAN8710A-EZC-TR
4/4 Transceiver Full MII, RMII 32-QFN (5x5); LCSC Part #: C46185; JLCPCB Part Type: Extended Part
footprint IC_QFN-32 (5x5)
pins: 1 VDD2A, 2 LED2/~{INT}SEL, 3 LED1/REGOFF, 4 XTAL2, 5 XTAL1/CLKIN, 6 VDDCR, 7 RXCLK/PHYAD1, 8 RXD3/PHYAD2, 9 RXD2/RMIISEL, 10 RXD1/MODE1, 11 RXD0/MODE0, 12 VDDIO, 13 RXER/RXD4/PHYAD0, 14 CRS, 15 COL/CRS_DV/MODE2, 16 MDIO, 17 MDC, 18 ~{INT}/TXER/TXD4, 19 ~{RST}, 20 TXCLK, 21 TXEN, 22 TXD0, 23 TXD1, 24 TXD2, 25 TXD3, 26 RXDV, 27 VDD1A, 28 TXN, 29 TXP, 30 RXN, 31 RXP, 32 RBIAS, 33 GND_PAD

## IC_INST-AMP_INA126UA
designator U?, comment INA126UA
36V microPower (175-µA), 250-µV offset, precision instrumentation amplifier; LCSC Part #: C97254; JLCPCB Part Type: Extended Part
pins: 1 RG, 2 IN-, 3 IN+, 4 V-, 5 REF, 6 VOUT, 7 V+, 8 RG

## IC_INST-AMP_INA826AIDR
designator U?, comment INA826AIDR
35nA 40uV 1MHz Single SOIC-8  Instrumentation OpAmps ROHS; LCSC Part #: C38433; JLCPCB Part Type: Extended Part
footprint IC_SOIC-8 (4.90x3.90mm) (SOIC, 8-Leads, Body 4.90x3.90mm, Pitch 1.27mm, IPC Medium Density)
pins: 1 IN-, 2 RG+, 3 RG-, 4 IN+, 5 V-, 6 REF, 7 VOUT, 8 V+
text: R; G

## IC_LDSW_AOZ1360AIL
designator U?, comment AOZ1360AIL
IC PWR SWITCH P-CHAN 1:1 8SOIC; JLCPCB Part #: C146821; JLCPCB Part Type: Extended Part
footprint SOIC-8 R8 (ANALOG DEV) (SOIC, 8-Leads, Body 4.90x3.90mm, Pitch 1.27mm, IPC Medium Density)
pins: 1 IN, 2 IN, 3 GND, 4 SS, 5 EN, 6 SET, 7 OUT, 8 OUT

## IC_LDSW_LS0504EDD12
designator U?, comment LS0504EDD12
5V, 4A LOW RON LOAD SWITCH; Supplier 1: Digi-Key; Supplier 2: Arrow Electronics; Supplier 3: Mouser; Supplier Part Number 1: 18-LS0504EDD12CT-ND; Supplier Part Number 2: LS0504EDD12; Supplier Part Number 3: 576-LS0504EDD12
pins: 1 GND, 2 EN, 3 IN, 4 OUT

## IC_LDSW_TPS2051BDGNR
designator U?, comment TPS2051BDGNR
Power Switch/Driver 1:1 N-Channel 500mA 8-HVSSOP; LCSC Part #: C468243; JLCPCB Part Type: Extended Part
footprint IC_HVSSOP-8
pins: 1 GND, 2 IN, 3 IN, 4 EN, 5 ~{OC}, 6 OUT, 7 OUT, 8 OUT, 9 PAD

## IC_LED_TLC59401RHBR
designator U?, comment TLC59401RHBR
IC LED DRVR LINEAR 120MA 32VQFN; JLCPCB Part Type: Global Parts Sourcing
footprint VQFN-32 (TI drawing - RHB) (QFN, 32-Leads, Body 5.00x5.00mm, Pitch 0.50mm, Thermal Pad 3.45x3.45mm, IPC Medium Density)
pins: 1 SCLK, 2 SIN, 3 MODE, 4 OUT0, 5 OUT1, 6 OUT2, 7 OUT3, 8 OUT4, 9 OUT5, 10 OUT6, 11 OUT7, 12 NC, 13 NC, 14 OUT8, 15 OUT9, 16 OUT10, 17 OUT11, 18 OUT12, 19 OUT13, 20 OUT14, 21 OUT15, 22 XERR, 23 SOUT, 24 GSCLK, 25 TEST, 26 IREF, 27 VCC, 28 NC, 29 NC, 30 GND, 31 BLANK, 32 XLAT, 33 PAD

## IC_MCU_STM32C011F6U6TR
designator U?, comment STM32C011F6U6TR
ARM® Cortex®-M0+ STM32C0 Microcontroller IC 32-Bit 48MHz 32KB (32K x 8) FLASH 20-UFQFPN (3x3); Manufacturer: STMicroelectronics; Manufacturer Part Number: STM32C011F6U6TR; Case/Package: UFQFPN20; LCSC Part #: C5456206; JLCPCB Part Type: Extended Part
footprint IC_UFQFPN-20 (ST_UFQFPN-20_3x3mm_P0.5mm)
pins: 1 PC15-OSCX_OUT, 2 VDD/VDDA, 3 VSS/VSSA, 4 PF2-NRST, 5 PA0, 6 PA1, 7 PA2, 8 PA3, 9 PA4, 10 PA5, 11 PA6, 12 PA7, 13 PA8, 14 [PA9] PA11, 15 [PA10] PA12, 16 SWDIO, 17 BOOT0/SWCLK, 18 PB6, 19 PB7, 20 PC14-OSCX_IN

## IC_MCU_STM32F103C8T6
designator U?, comment STM32F103C8T6
ARM® Cortex®-M3 STM32F1 Microcontroller IC 32-Bit 72MHz 64KB (64K x 8) FLASH 48-LQFP (7x7); Manufacturer: STMicroelectronics; Alternate Part Number-1: NA; Manufacturer Part Number: STM32F103C8T6; Case/Package: LQFP48; Supplier-1: LCSC; Supplier Part Number-1: STM32F103C8T6
footprint LQFP-48_19.6_393_58X11_SMD (48LQFP)
pins: 1 VBAT, 2 PC13-TAMPER-RT_C, 3 PC14-OSC32_IN, 4 PC15-OSC32_OUT, 5 PD0-OSC_IN, 6 PD1-OSC_OUT, 7 NRST, 8 VSSA, 9 VDDA, 10 PA0-WKUP, 11 PA1, 12 PA2, 13 PA3, 14 PA4, 15 PA5, 16 PA6, 17 PA7, 18 PB0, 19 PB1, 20 PB2, 21 PB10, 22 PB11, 23 VSS_1, 24 VDD_1, 25 PB12, 26 PB13, 27 PB14, 28 PB15, 29 PA8, 30 PA9, 31 PA10, 32 PA11, 33 PA12, 34 PA13, 35 VSS_2, 36 VDD_2, 37 PA14, 38 PA15, 39 PB3, 40 PB4, 41 PB5, 42 PB6, 43 PB7, 44 BOOT0, 45 PB8, 46 PB9, 47 VSS_3, 48 VDD_3

## IC_MCU_STM32F103RCT6
designator U?, comment STM32F103RCT6
48KB 256K@x8bit 2V~3.6V -40℃~+85℃ ARM Cortex-M3 1@x2ch/12bit 1@x16ch/12bit Internal oscillator included  72MHz 51 LQFP-64_10x10x05P  Microcontroller Units (MCUs/MPUs/SOCs) ROHS; LCSC Part #: C8323; JLCPCB Part Type: Extended Part
footprint LQFP-64_10x10mm (ST) (LQFP, 64-Leads, Body 10.00x10.00mm, Pitch 0.50mm, IPC Medium Density)
part A pins: 2 PC13, 3 PC14/OSC32_IN, 4 PC15/OSC32_OUT, 5 PD0/OSC_IN, 6 PD1/OSC_OUT, 7 NRST, 8 PC0, 9 PC1, 10 PC2, 11 PC3, 14 PA0, 15 PA1, 16 PA2, 17 PA3, 20 PA4, 21 PA5, 22 PA6, 23 PA7, 24 PC4, 25 PC5, 26 PB0, 27 PB1, 28 PB2, 29 PB10, 30 PB11, 33 PB12, 34 PB13, 35 PB14, 36 PB15, 37 PC6, 38 PC7, 39 PC8, 40 PC9, 41 PA8, 42 PA9, 43 PA10, 44 PA11, 45 PA12, 46 PA13, 49 PA14, 50 PA15, 51 PC10, 52 PC11, 53 PC12, 54 PD2, 55 PB3, 56 PB4, 57 PB5, 58 PB6, 59 PB7, 60 BOOT0, 61 PB8, 62 PB9
part B pins: 1 VBAT, 12 VSSA, 13 VDDA, 18 VSS_4, 19 VDD_4, 31 VSS_1, 32 VDD_1, 47 VSS_2, 48 VDD_2, 63 VSS_3, 64 VDD_3

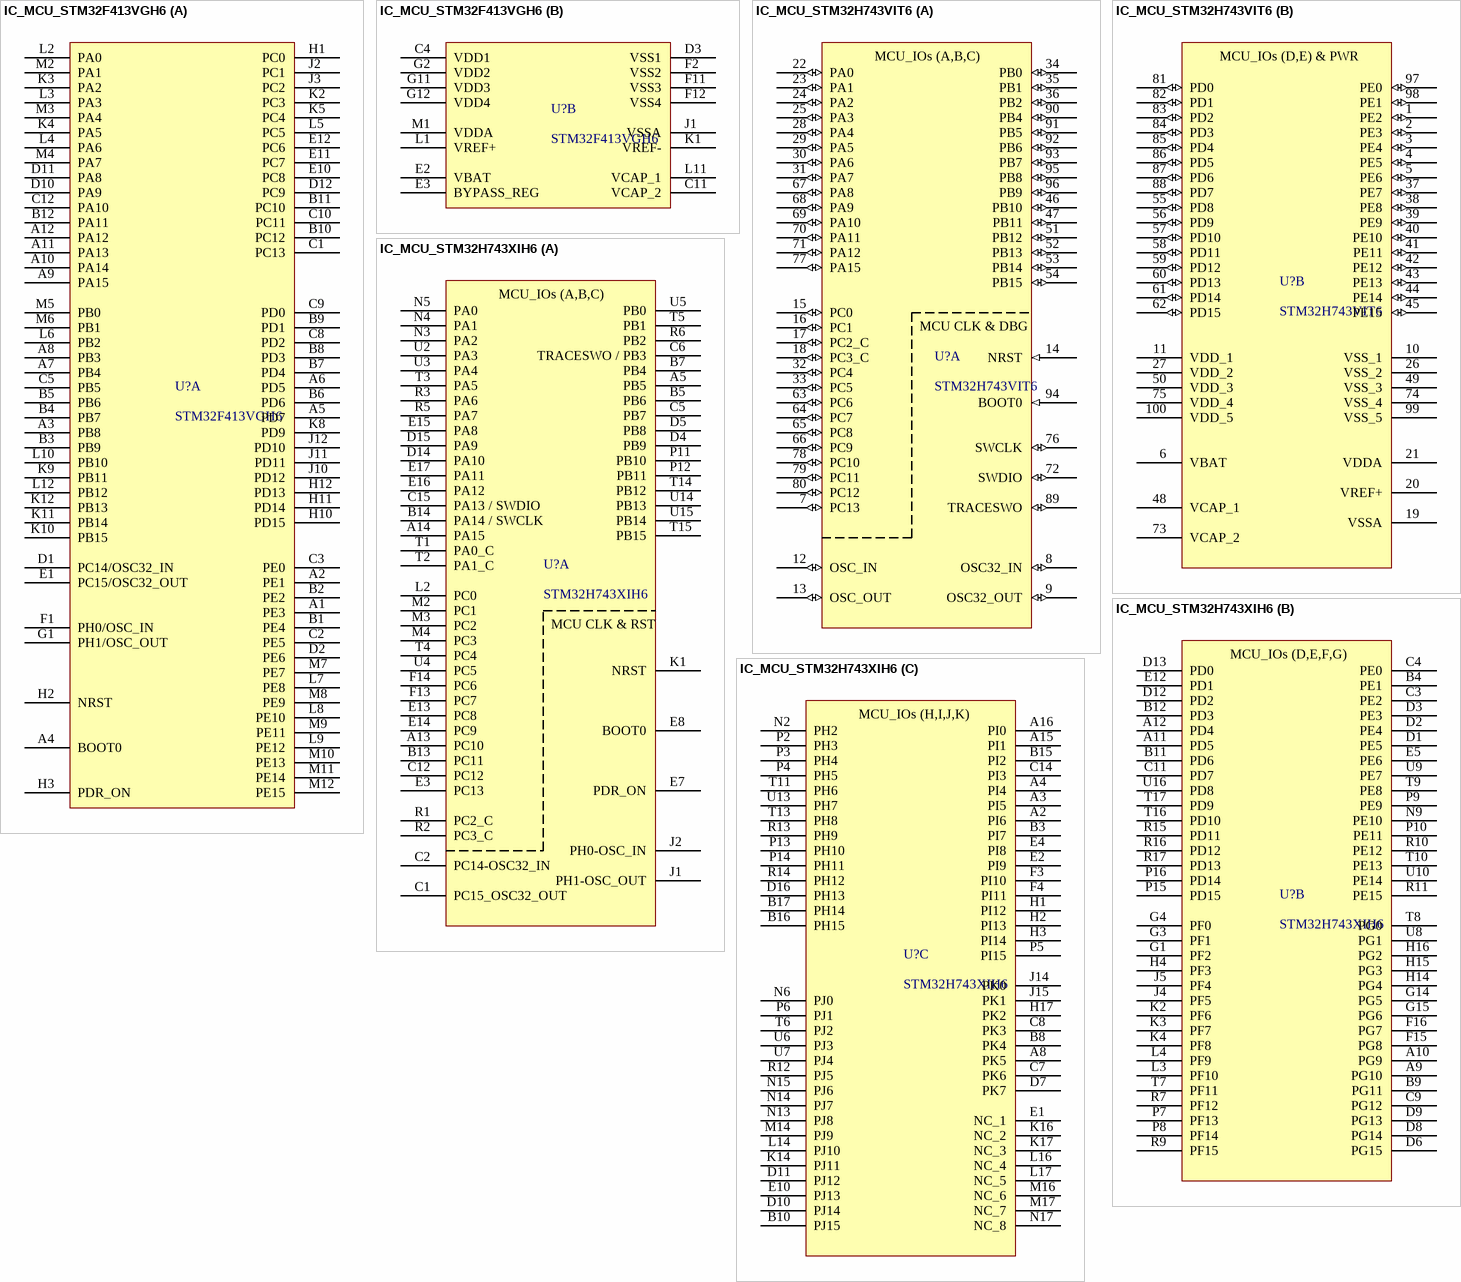
[diagram p9: symbols IC_MCU_STM32F413VGH6 to IC_MCU_STM32H743XIH6]

## IC_MCU_STM32F413VGH6
designator U?, comment STM32F413VGH6
IC MCU 32BIT 1MB FLASH 100UFBGA; LCSC Part #: C1337757; JLCPCB Part Type: Extended Part
footprint UFBGA-100_7x7mm (UFBGA100 - 100-pin, 7 x 7 mm, 0.50 mm pitch, ultra fine pitch ball  grid array package)
part A pins: A1 PE3, A2 PE1, A3 PB8, A4 BOOT0, A5 PD7, A6 PD5, A7 PB4, A8 PB3, A9 PA15, A10 PA14, A11 PA13, A12 PA12, B1 PE4, B2 PE2, B3 PB9, B4 PB7, B5 PB6, B6 PD6, B7 PD4, B8 PD3, B9 PD1, B10 PC12, B11 PC10, B12 PA11, C1 PC13, C2 PE5, C3 PE0, C5 PB5, C8 PD2, C9 PD0, C10 PC11, C12 PA10, D1 PC14/OSC32_IN, D2 PE6, D10 PA9, D11 PA8, D12 PC9, E1 PC15/OSC32_OUT, E10 PC8, E11 PC7, E12 PC6, F1 PH0/OSC_IN, G1 PH1/OSC_OUT, H1 PC0, H2 NRST, H3 PDR_ON, H10 PD15, H11 PD14, H12 PD13, J2 PC1, J3 PC2, J10 PD12, J11 PD11, J12 PD10, K2 PC3, K3 PA2, K4 PA5, K5 PC4, K8 PD9, K9 PB11, K10 PB15, K11 PB14, K12 PB13, L2 PA0, L3 PA3, L4 PA6, L5 PC5, L6 PB2, L7 PE8, L8 PE10, L9 PE12, L10 PB10, L12 PB12, M2 PA1, M3 PA4, M4 PA7, M5 PB0, M6 PB1, M7 PE7, M8 PE9, M9 PE11, M10 PE13, M11 PE14, M12 PE15
part B pins: C4 VDD1, C11 VCAP_2, D3 VSS1, E2 VBAT, E3 BYPASS_REG, F2 VSS2, F11 VSS3, F12 VSS4, G2 VDD2, G11 VDD3, G12 VDD4, J1 VSSA, K1 VREF-, L1 VREF+, L11 VCAP_1, M1 VDDA

## IC_MCU_STM32H743VIT6
designator U?, comment STM32H743VIT6
MCU High-performance & DSP DP-FPU, Arm Cortex-M7 MCU 2MBytes of Flash 1MB RAM, 480 M; LCSC Part #: C114409; JLCPCB Part Type: Extended Part
footprint LQFP-100_14x14MM (ST) (Thin QFP, 100-Leads, Body 14x14mm, Pitch 0.5mm, ST Recommended)
part A pins: 7 PC13 (io), 8 OSC32_IN (io), 9 OSC32_OUT (io), 12 OSC_IN (io), 13 OSC_OUT (io), 14 NRST (in), 15 PC0 (io), 16 PC1 (io), 17 PC2_C (io), 18 PC3_C (io), 22 PA0 (io), 23 PA1 (io), 24 PA2 (io), 25 PA3 (io), 28 PA4 (io), 29 PA5 (io), 30 PA6 (io), 31 PA7 (io), 32 PC4 (io), 33 PC5 (io), 34 PB0 (io), 35 PB1 (io), 36 PB2 (io), 46 PB10 (io), 47 PB11 (io), 51 PB12 (io), 52 PB13 (io), 53 PB14 (io), 54 PB15 (io), 63 PC6 (io), 64 PC7 (io), 65 PC8 (io), 66 PC9 (io), 67 PA8 (io), 68 PA9 (io), 69 PA10 (io), 70 PA11 (io), 71 PA12 (io), 72 SWDIO (io), 76 SWCLK (io), 77 PA15 (io), 78 PC10 (io), 79 PC11 (io), 80 PC12 (io), 89 TRACESWO (io), 90 PB4 (io), 91 PB5 (io), 92 PB6 (io), 93 PB7 (io), 94 BOOT0 (in), 95 PB8 (io), 96 PB9 (io)
part B pins: 1 PE2 (io), 2 PE3 (io), 3 PE4 (io), 4 PE5 (io), 5 PE6 (io), 6 VBAT (power), 10 VSS_1 (power), 11 VDD_1 (power), 19 VSSA (power), 20 VREF+ (power), 21 VDDA (power), 26 VSS_2 (power), 27 VDD_2 (power), 37 PE7 (io), 38 PE8 (io), 39 PE9 (io), 40 PE10 (io), 41 PE11 (io), 42 PE12 (io), 43 PE13 (io), 44 PE14 (io), 45 PE15 (io), 48 VCAP_1 (power), 49 VSS_3 (power), 50 VDD_3 (power), 55 PD8 (io), 56 PD9 (io), 57 PD10 (io), 58 PD11 (io), 59 PD12 (io), 60 PD13 (io), 61 PD14 (io), 62 PD15 (io), 73 VCAP_2 (power), 74 VSS_4 (power), 75 VDD_4 (power), 81 PD0 (io), 82 PD1 (io), 83 PD2 (io), 84 PD3 (io), 85 PD4 (io), 86 PD5 (io), 87 PD6 (io), 88 PD7 (io), 97 PE0 (io), 98 PE1 (io), 99 VSS_5 (power), 100 VDD_5 (power)
part A text: MCU_IOs (A,B,C); MCU CLK & DBG
part B text: MCU_IOs (D,E) & PWR

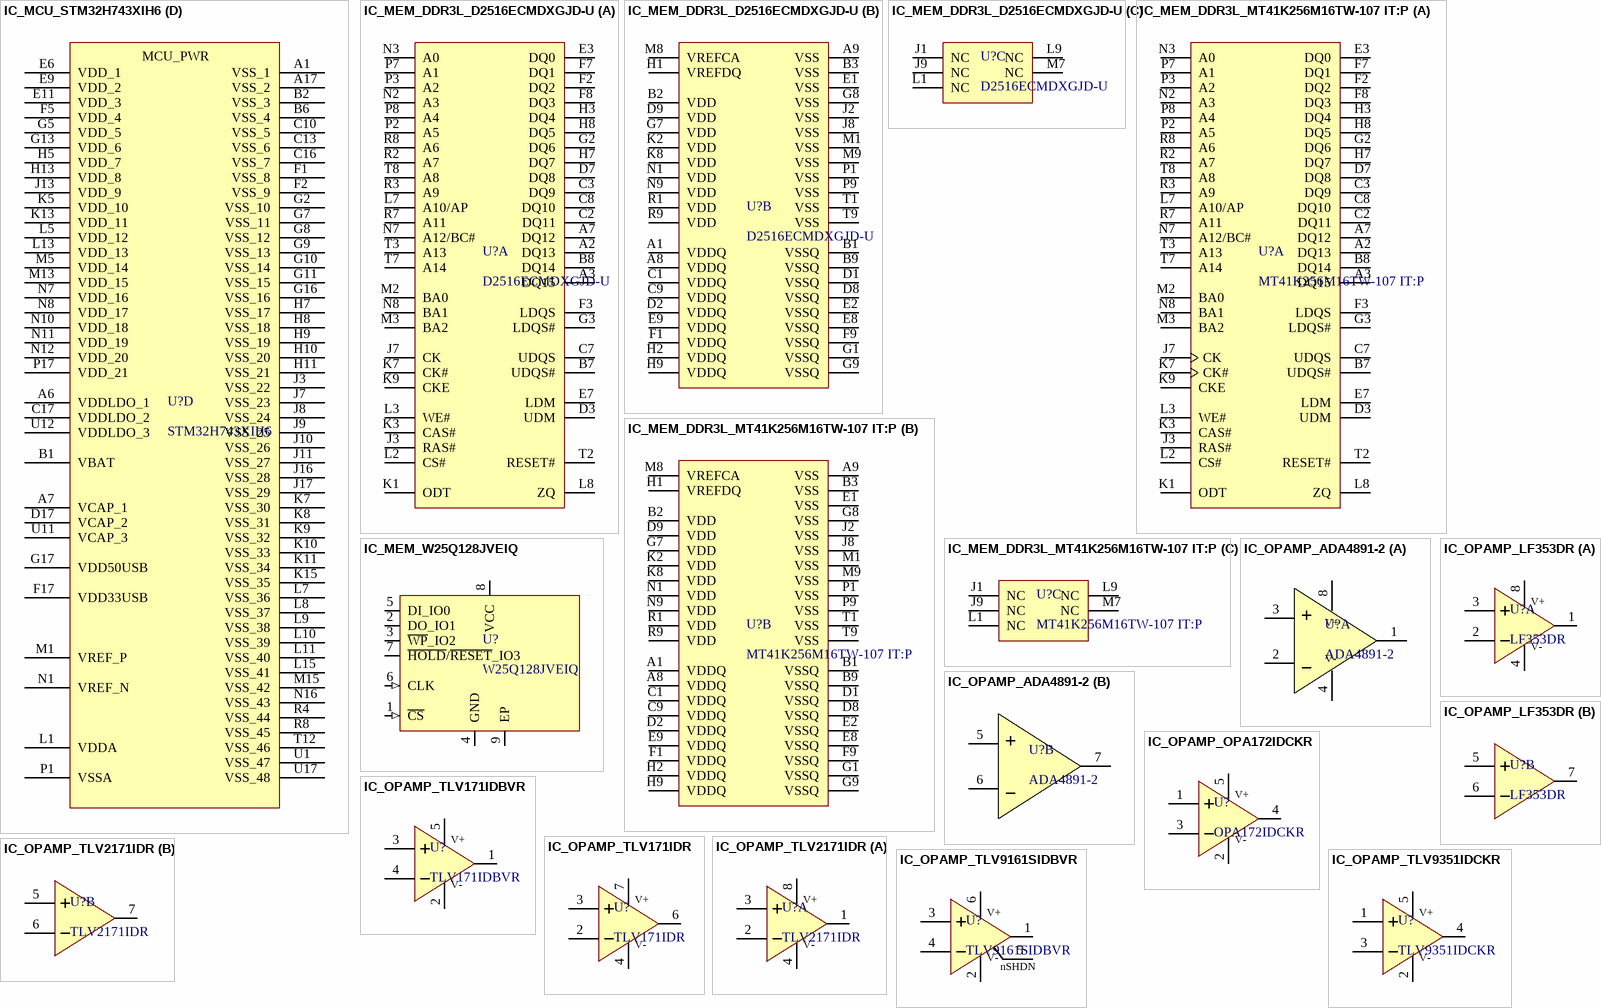
[diagram p10: symbols IC_MCU_STM32H743XIH6 to IC_OPAMP_TLV9351IDCKR]

## IC_MCU_STM32H743XIH6
designator U?, comment STM32H743XIH6
ARM® Cortex®-M7 STM32H7 MCU IC 32bit Single-core 480MHz 2MB(2M x 8) Flash 240+25-TFBGA(14x14); LCSC Part #: C114407; JLCPCB Part Type: Extended Part
footprint IC TFBGA-265 (TFBGA-265_14x14mm)
part A pins: A5 PB5, A13 PC10, A14 PA15, B5 PB6, B7 PB4, B13 PC11, B14 PA14 / SWCLK, C1 PC15_OSC32_OUT, C2 PC14-OSC32_IN, C5 PB7, C6 TRACESWO / PB3, C12 PC12, C15 PA13 / SWDIO, D4 PB9, D5 PB8, D14 PA10, D15 PA9, E3 PC13, E7 PDR_ON, E8 BOOT0, E13 PC8, E14 PC9, E15 PA8, E16 PA12, E17 PA11, F13 PC7, F14 PC6, J1 PH1-OSC_OUT, J2 PH0-OSC_IN, K1 NRST, L2 PC0, M2 PC1, M3 PC2, M4 PC3, N3 PA2, N4 PA1, N5 PA0, P11 PB10, P12 PB11, R1 PC2_C, R2 PC3_C, R3 PA6, R5 PA7, R6 PB2, T1 PA0_C, T2 PA1_C, T3 PA5, T4 PC4, T5 PB1, T14 PB12, T15 PB15, U2 PA3, U3 PA4, U4 PC5, U5 PB0, U14 PB13, U15 PB14
part B pins: A9 PG10, A10 PG9, A11 PD5, A12 PD4, B4 PE1, B9 PG11, B11 PD6, B12 PD3, C3 PE2, C4 PE0, C9 PG12, C11 PD7, D1 PE5, D2 PE4, D3 PE3, D6 PG15, D8 PG14, D9 PG13, D12 PD2, D13 PD0, E5 PE6, E12 PD1, F15 PG8, F16 PG7, G1 PF2, G3 PF1, G4 PF0, G14 PG5, G15 PG6, H4 PF3, H14 PG4, H15 PG3, H16 PG2, J4 PF5, J5 PF4, K2 PF6, K3 PF7, K4 PF8, L3 PF10, L4 PF9, N9 PE10, P7 PF13, P8 PF14, P9 PE9, P10 PE11, P15 PD15, P16 PD14, R7 PF12, R9 PF15, R10 PE12, R11 PE15, R15 PD11, R16 PD12, R17 PD13, T7 PF11, T8 PG0, T9 PE8, T10 PE13, T16 PD10, T17 PD9, U8 PG1, U9 PE7, U10 PE14, U16 PD8
part C pins: A2 PI6, A3 PI5, A4 PI4, A8 PK5, A15 PI1, A16 PI0, B3 PI7, B8 PK4, B10 PJ15, B15 PI2, B16 PH15, B17 PH14, C7 PK6, C8 PK3, C14 PI3, D7 PK7, D10 PJ14, D11 PJ12, D16 PH13, E1 NC_1, E2 PI9, E4 PI8, E10 PJ13, F3 PI10, F4 PI11, H1 PI12, H2 PI13, H3 PI14, H17 PK2, J14 PK0, J15 PK1, K14 PJ11, K16 NC_2, K17 NC_3, L14 PJ10, L16 NC_4, L17 NC_5, M14 PJ9, M16 NC_6, M17 NC_7, N2 PH2, N6 PJ0, N13 PJ8, N14 PJ7, N15 PJ6, N17 NC_8, P2 PH3, P3 PH4, P4 PH5, P5 PI15, P6 PJ1, P13 PH10, P14 PH11, R12 PJ5, R13 PH9, R14 PH12, T6 PJ2, T11 PH6, T13 PH8, U6 PJ3, U7 PJ4, U13 PH7
part D pins: A1 VSS_1, A6 VDDLDO_1, A7 VCAP_1, A17 VSS_2, B1 VBAT, B2 VSS_3, B6 VSS_4, C10 VSS_5, C13 VSS_6, C16 VSS_7, C17 VDDLDO_2, D17 VCAP_2, E6 VDD_1, E9 VDD_2, E11 VDD_3, F1 VSS_8, F2 VSS_9, F5 VDD_4, F17 VDD33USB, G2 VSS_10, G5 VDD_5, G7 VSS_11, G8 VSS_12, G9 VSS_13, G10 VSS_14, G11 VSS_15, G13 VDD_6, G16 VSS_16, G17 VDD50USB, H5 VDD_7, H7 VSS_17, H8 VSS_18, H9 VSS_19, H10 VSS_20, H11 VSS_21, H13 VDD_8, J3 VSS_22, J7 VSS_23, J8 VSS_24, J9 VSS_25, J10 VSS_26, J11 VSS_27, J13 VDD_9, J16 VSS_28, J17 VSS_29, K5 VDD_10, K7 VSS_30, K8 VSS_31, K9 VSS_32, K10 VSS_33, K11 VSS_34, K13 VDD_11, K15 VSS_35, L1 VDDA, L5 VDD_12, L7 VSS_36, L8 VSS_37, L9 VSS_38, L10 VSS_39, L11 VSS_40, L13 VDD_13, L15 VSS_41, M1 VREF_P, M5 VDD_14, M13 VDD_15, M15 VSS_42, N1 VREF_N, N7 VDD_16, N8 VDD_17, N10 VDD_18, N11 VDD_19, N12 VDD_20, N16 VSS_43, P1 VSSA, P17 VDD_21, R4 VSS_44, R8 VSS_45, T12 VSS_46, U1 VSS_47, U11 VCAP_3, U12 VDDLDO_3, U17 VSS_48
part A text: MCU_IOs (A,B,C); MCU CLK & RST
part B text: MCU_IOs (D,E,F,G)
part C text: MCU_IOs (H,I,J,K)
part D text: MCU_PWR

## IC_MEM_DDR3L_D2516ECMDXGJD-U
designator U?, comment D2516ECMDXGJD-U
DRAM 4Gb 96 ball FBGA DDR3L 1866; JLCPCB Part Type: Extended Part; LCSC Part #: C2927180
footprint IC_MEM_DDR3L_MT41K256M16TW-107 IT:P
part A pins: A2 DQ13, A3 DQ15, A7 DQ12, B7 UDQS#, B8 DQ14, C2 DQ11, C3 DQ9, C7 UDQS, C8 DQ10, D3 UDM, D7 DQ8, E3 DQ0, E7 LDM, F2 DQ2, F3 LDQS, F7 DQ1, F8 DQ3, G2 DQ6, G3 LDQS#, H3 DQ4, H7 DQ7, H8 DQ5, J3 RAS#, J7 CK, K1 ODT, K3 CAS#, K7 CK#, K9 CKE, L2 CS#, L3 WE#, L7 A10/AP, L8 ZQ, M2 BA0, M3 BA2, N2 A3, N3 A0, N7 A12/BC#, N8 BA1, P2 A5, P3 A2, P7 A1, P8 A4, R2 A7, R3 A9, R7 A11, R8 A6, T2 RESET#, T3 A13, T7 A14, T8 A8
part B pins: A1 VDDQ, A8 VDDQ, A9 VSS, B1 VSSQ, B2 VDD, B3 VSS, B9 VSSQ, C1 VDDQ, C9 VDDQ, D1 VSSQ, D2 VDDQ, D8 VSSQ, D9 VDD, E1 VSS, E2 VSSQ, E8 VSSQ, E9 VDDQ, F1 VDDQ, F9 VSSQ, G1 VSSQ, G7 VDD, G8 VSS, G9 VSSQ, H1 VREFDQ, H2 VDDQ, H9 VDDQ, J2 VSS, J8 VSS, K2 VDD, K8 VDD, M1 VSS, M8 VREFCA, M9 VSS, N1 VDD, N9 VDD, P1 VSS, P9 VSS, R1 VDD, R9 VDD, T1 VSS, T9 VSS
part C pins: J1 NC, J9 NC, L1 NC, L9 NC, M7 NC

## IC_MEM_DDR3L_MT41K256M16TW-107 IT:P
designator U?, comment MT41K256M16TW-107 IT:P
SDRAM - DDR3L Memory IC 4Gbit Parallel 933 MHz 20 ns 96-FBGA (8x14); JLCPCB Part Type: Extended Part; LCSC Part #: C367428
footprint IC_MEM_DDR3L_MT41K256M16TW-107 IT:P
part A pins: A2 DQ13, A3 DQ15, A7 DQ12, B7 UDQS#, B8 DQ14, C2 DQ11, C3 DQ9, C7 UDQS, C8 DQ10, D3 UDM, D7 DQ8, E3 DQ0, E7 LDM, F2 DQ2, F3 LDQS, F7 DQ1, F8 DQ3, G2 DQ6, G3 LDQS#, H3 DQ4, H7 DQ7, H8 DQ5, J3 RAS#, J7 CK, K1 ODT, K3 CAS#, K7 CK#, K9 CKE, L2 CS#, L3 WE#, L7 A10/AP, L8 ZQ, M2 BA0, M3 BA2, N2 A3, N3 A0, N7 A12/BC#, N8 BA1, P2 A5, P3 A2, P7 A1, P8 A4, R2 A7, R3 A9, R7 A11, R8 A6, T2 RESET#, T3 A13, T7 A14, T8 A8
part B pins: A1 VDDQ, A8 VDDQ, A9 VSS, B1 VSSQ, B2 VDD, B3 VSS, B9 VSSQ, C1 VDDQ, C9 VDDQ, D1 VSSQ, D2 VDDQ, D8 VSSQ, D9 VDD, E1 VSS, E2 VSSQ, E8 VSSQ, E9 VDDQ, F1 VDDQ, F9 VSSQ, G1 VSSQ, G7 VDD, G8 VSS, G9 VSSQ, H1 VREFDQ, H2 VDDQ, H9 VDDQ, J2 VSS, J8 VSS, K2 VDD, K8 VDD, M1 VSS, M8 VREFCA, M9 VSS, N1 VDD, N9 VDD, P1 VSS, P9 VSS, R1 VDD, R9 VDD, T1 VSS, T9 VSS
part C pins: J1 NC, J9 NC, L1 NC, L9 NC, M7 NC

## IC_MEM_W25Q128JVEIQ
designator U?, comment W25Q128JVEIQ
3V 128M-BIT SERIAL FLASH MEMORY WITH DUAL/QUAD SPI & QPI & DTR WSON-8; Manufacturer: Winbond; Manufacturer Part Number: W25Q128JVEIQ; LCSC Part #: C401662; JLCPCB Part Type: Extended Part
footprint IC_WSON-8-8X6 (8-Pad WSON 8x6-mm (Package Code E) (Winbond))
pins: 1 ~{CS} (in), 2 DO_IO1 (io), 3 ~{WP}_IO2 (io), 4 GND (power), 5 DI_IO0 (io), 6 CLK (in), 7 ~{HOLD}/~{RESET}_IO3 (io), 8 VCC (power), 9 EP (power)

## IC_OPAMP_ADA4891-2
designator U?, comment ADA4891-2
CMOS OpAmp 2-Circuit Rail-to-Rail 8-SOIC
footprint SOIC-8 R8 (ANALOG DEV) (SOIC, 8-Leads, Body 4.90x3.90mm, Pitch 1.27mm, IPC Medium Density)
part A pins: 1 OUT1, 2 -IN1, 3 +IN1, 4 -Vs, 8 +Vs
part B pins: 5 +IN2, 6 -IN2, 7 OUT2
part A text: V+; V-

## IC_OPAMP_LF353DR
designator U?, comment LF353DR
IC OPAMP JFET 2 CIRCUIT 8SOIC
footprint SOIC-8 (TI D0008A) (Package SOIC-8, 8-Leades, 4.90 x 3.89 mm Body , Pitch 1.27 mm)
part A pins: 1, 2, 3, 4, 8
part B pins: 5, 6, 7
part A text: V+; V-

## IC_OPAMP_OPA172IDCKR
designator U?, comment OPA172IDCKR
10 V/us 1 10MHz 4.5V ~ 36V, ±2.25V ~ 18V General Purpose SC-70-5  Operational Amplifier ROHS; LCSC Part #: C84622; JLCPCB Part Type: Extended Part
footprint SC-70-5 (Small Outline Transistor Plastic Packages (SC70-5))
pins: 1, 2, 3, 4, 5
text: V+; V-

## IC_OPAMP_TLV171IDBVR
designator U?, comment TLV171IDBVR
Single, 36-V, 3-MHz, low-power operational amplifier for cost-sensitive applications; LCSC Part #: C2864299; JLCPCB Part Type: Extended Part
footprint SOT-23-5 (TI DBV PACKAGE) (SOT23, 5-Leads, Body 2.90x2.80mm, Pitch 0.95mm, IPC Medium Density)
pins: 1 OUT, 2 V-, 3 IN+, 4 IN-, 5 V+

## IC_OPAMP_TLV171IDR
designator U?, comment TLV171IDR
Single 36V, 3MHz 10pA Low-Power Op Amp; LCSC Part #: C2058847; JLCPCB Part Type: Extended Part
footprint IC_SOIC-8 (4.90x3.90mm) (SOIC, 8-Leads, Body 4.90x3.90mm, Pitch 1.27mm, IPC Medium Density)
pins: 2 IN-, 3 IN+, 4 V-, 6 OUT, 7 V+

## IC_OPAMP_TLV2171IDR
designator U?, comment TLV2171IDR
Operational Amplifiers - Op Amps 36V, Low-Power Op Amp, Rail to Rail Output; LCSC Part #: C468184; JLCPCB Part Type: Extended Part
footprint SOIC-8 R8 (ANALOG DEV) (SOIC, 8-Leads, Body 4.90x3.90mm, Pitch 1.27mm, IPC Medium Density)
part A pins: 1, 2, 3, 4, 8
part B pins: 5, 6, 7
part A text: V+; V-

## IC_OPAMP_TLV9161SIDBVR
designator U?, comment TLV9161SIDBVR
SINGLE 10-MHZ, 16-V RAIL-TO-RAIL
footprint SOT-23-6 (TI DBV PACKAGE) (SOT23, 6-Leads, Body 2.90x2.80mm, Pitch 0.95mm, IPC Medium Density)
pins: 1, 2, 3, 4, 5 ~{SHDN}, 6
text: V+; V-; nSHDN

## IC_OPAMP_TLV9351IDCKR
designator U?, comment TLV9351IDCKR
Operational Amplifiers - Op Amps 40-V, single 3.5-MHz, RRO, MUX-friendly operational amplifier for cost-sensitive systems 5-SC70 -40 to 125
footprint SC-70-5 (Small Outline Transistor Plastic Packages (SC70-5))
pins: 1, 2, 3, 4, 5
text: V+; V-

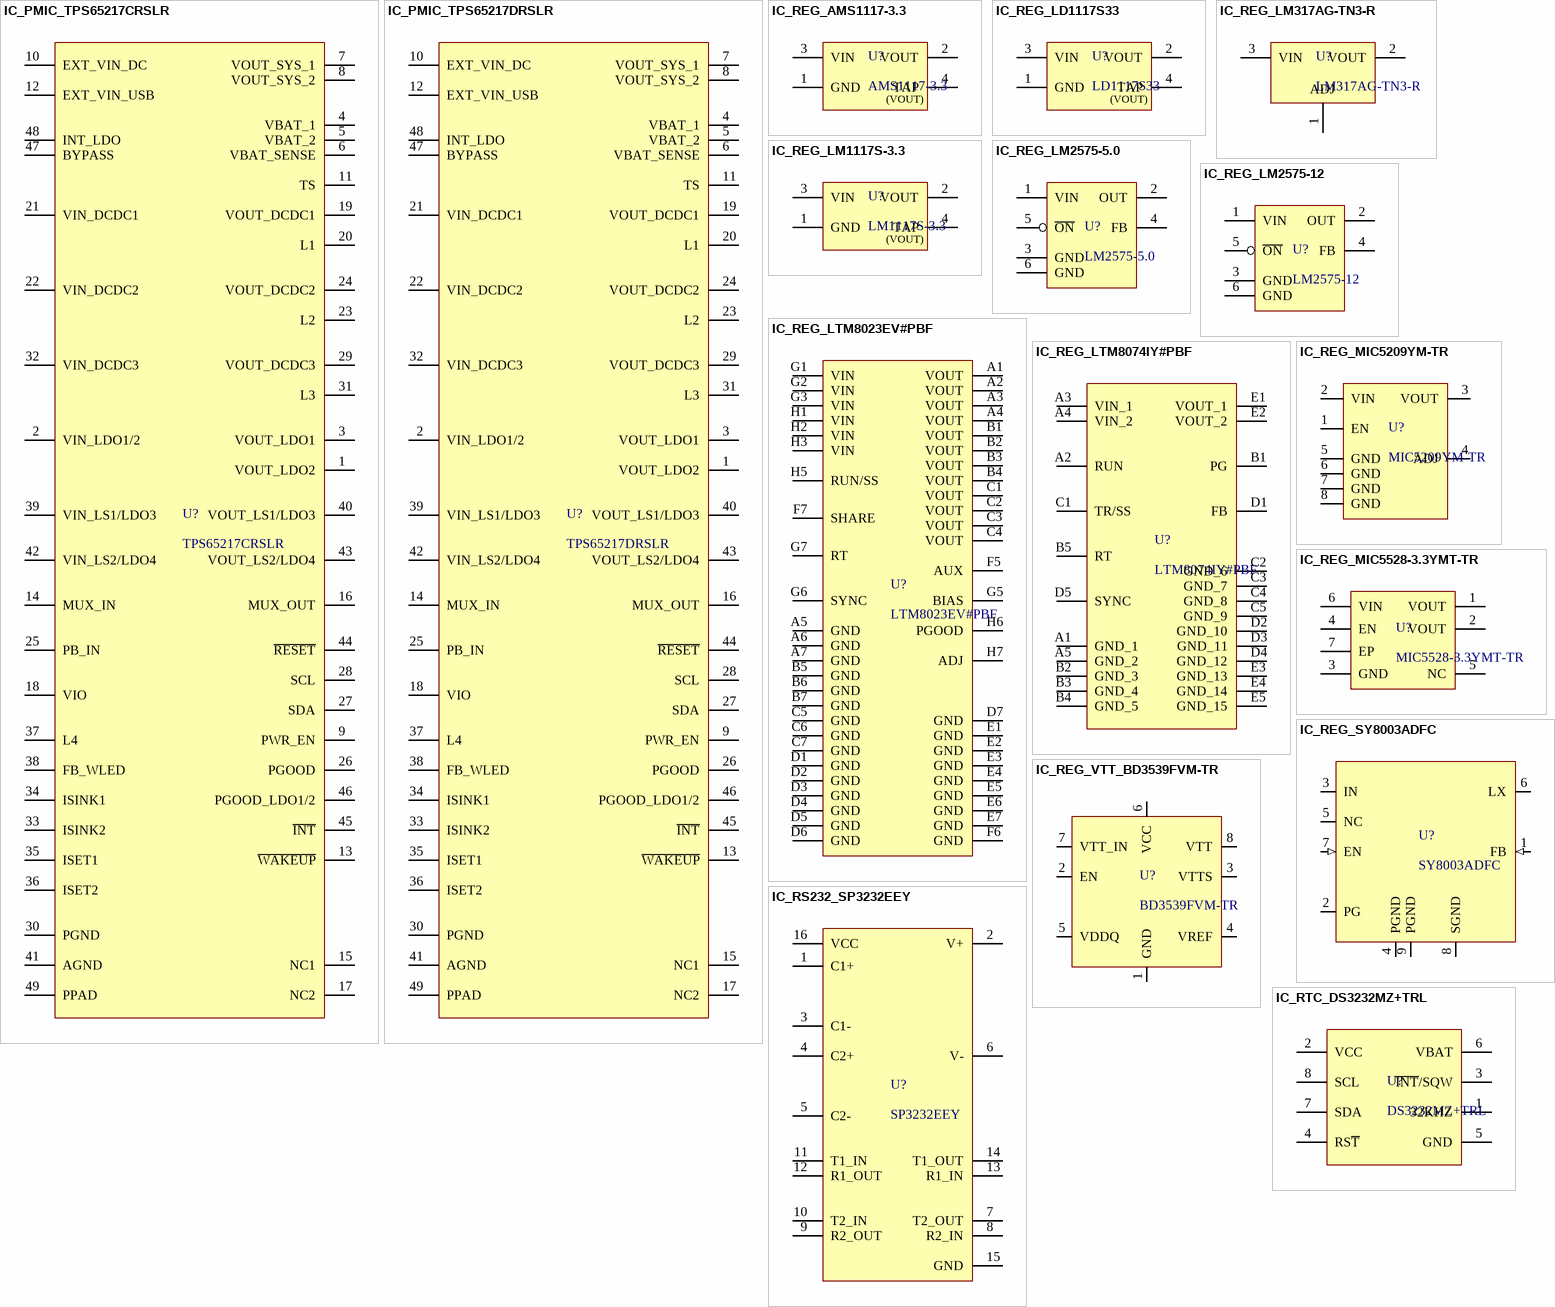
[diagram p11: symbols IC_PMIC_TPS65217CRSLR to IC_RTC_DS3232MZ+TRL]

## IC_PMIC_TPS65217CRSLR
designator U?, comment TPS65217CRSLR
Battery Management, Display (LED Drivers), Handheld/Mobile Devices, Power Supply PMIC 48-VQFN (6x6); LCSC Part #: C116081; JLCPCB Part Type: Extended Part
footprint IC_VQFN-48(6x6) (Footprint for TPS65217DRSLR (25.01.28))
pins: 1 VOUT_LDO2, 2 VIN_LDO1/2, 3 VOUT_LDO1, 4 VBAT_1, 5 VBAT_2, 6 VBAT_SENSE, 7 VOUT_SYS_1, 8 VOUT_SYS_2, 9 PWR_EN, 10 EXT_VIN_DC, 11 TS, 12 EXT_VIN_USB, 13 ~{WAKEUP}, 14 MUX_IN, 15 NC1, 16 MUX_OUT, 17 NC2, 18 VIO, 19 VOUT_DCDC1, 20 L1, 21 VIN_DCDC1, 22 VIN_DCDC2, 23 L2, 24 VOUT_DCDC2, 25 PB_IN, 26 PGOOD, 27 SDA, 28 SCL, 29 VOUT_DCDC3, 30 PGND, 31 L3, 32 VIN_DCDC3, 33 ISINK2, 34 ISINK1, 35 ISET1, 36 ISET2, 37 L4, 38 FB_WLED, 39 VIN_LS1/LDO3, 40 VOUT_LS1/LDO3, 41 AGND, 42 VIN_LS2/LDO4, 43 VOUT_LS2/LDO4, 44 ~{RESET}, 45 ~{INT}, 46 PGOOD_LDO1/2, 47 BYPASS, 48 INT_LDO, 49 PPAD

## IC_PMIC_TPS65217DRSLR
designator U?, comment TPS65217DRSLR
Battery Management, Display (LED Drivers), Handheld/Mobile Devices, Power Supply PMIC 48-VQFN (6x6); LCSC Part #: C702315; JLCPCB Part Type: Extended Part
footprint IC_VQFN-48(6x6) (Footprint for TPS65217DRSLR (25.01.28))
pins: 1 VOUT_LDO2, 2 VIN_LDO1/2, 3 VOUT_LDO1, 4 VBAT_1, 5 VBAT_2, 6 VBAT_SENSE, 7 VOUT_SYS_1, 8 VOUT_SYS_2, 9 PWR_EN, 10 EXT_VIN_DC, 11 TS, 12 EXT_VIN_USB, 13 ~{WAKEUP}, 14 MUX_IN, 15 NC1, 16 MUX_OUT, 17 NC2, 18 VIO, 19 VOUT_DCDC1, 20 L1, 21 VIN_DCDC1, 22 VIN_DCDC2, 23 L2, 24 VOUT_DCDC2, 25 PB_IN, 26 PGOOD, 27 SDA, 28 SCL, 29 VOUT_DCDC3, 30 PGND, 31 L3, 32 VIN_DCDC3, 33 ISINK2, 34 ISINK1, 35 ISET1, 36 ISET2, 37 L4, 38 FB_WLED, 39 VIN_LS1/LDO3, 40 VOUT_LS1/LDO3, 41 AGND, 42 VIN_LS2/LDO4, 43 VOUT_LS2/LDO4, 44 ~{RESET}, 45 ~{INT}, 46 PGOOD_LDO1/2, 47 BYPASS, 48 INT_LDO, 49 PPAD

## IC_REG_AMS1117-3.3
designator U?, comment AMS1117-3.3
72dB@(120Hz) 1A 1.3V@(800mA) Fixed 3.3V~3.3V Positive 1 SOT-223  Linear Voltage Regulators (LDO) ROHS; LCSC Part #: C6186; JLCPCB Part Type: Basic Part
footprint SOT 223-3 (DIODES INCORPORATED) (SOT223, 4-Leads, Body 6.50x7.00mm (avg), Pitch 2.30mm, IPC Medium Density)
pins: 1 GND, 2 VOUT, 3 VIN, 4 TAP
text: (VOUT)

## IC_REG_LD1117S33
designator U?, comment LD1117S33
IC REG LINEAR 3.3V 800MA SOT223; LCSC Part #: C35879; JLCPCB Part Type: Extended Part
footprint SOT 223-3 (DIODES INCORPORATED) (SOT223, 4-Leads, Body 6.50x7.00mm (avg), Pitch 2.30mm, IPC Medium Density)
pins: 1 GND, 2 VOUT, 3 VIN, 4 TAP
text: (VOUT)

## IC_REG_LM317AG-TN3-R
designator U?, comment LM317AG-TN3-R
1.5A 5V@(500mA) Adjustable 1.2V~37V Positive 1 40V TO-252-2(DPAK)  Linear Voltage Regulators (LDO) ROHS; LCSC Part #: C75510; JLCPCB Part Type: Basic Part
footprint IC_TO-252-2(DPAK)
pins: 1 ADJ, 2 VOUT, 3 VIN

## IC_REG_LM1117S-3.3
designator U?, comment LM1117S-3.3
LOWDROP OUT VOLTAGE REGULATOR, 3.3V, 1A, SOT-223; LCSC Part #: C9662; JLCPCB Part Type: Extended Part
footprint SOT 223-3 (DIODES INCORPORATED) (SOT223, 4-Leads, Body 6.50x7.00mm (avg), Pitch 2.30mm, IPC Medium Density)
pins: 1 GND, 2 VOUT, 3 VIN, 4 TAP
text: (VOUT)

## IC_REG_LM2575-5.0
designator U?, comment LM2575-5.0
Easy  Switcher 1.0A Step-Down Voltage  Regulator; LCSC Part #: C347405; JLCPCB Part Type: Extended Part
footprint TO 263-5 (D2PAK) (D2-PAK, 6-Pads, Body 8,9x9,9mm (max), IPC Low Density)
pins: 1 VIN (power), 2 OUT (power), 3 GND (power), 4 FB, 5 ~{ON}, 6 GND (power)

## IC_REG_LM2575-12
designator U?, comment LM2575-12
Easy  Switcher 1.0A Step-Down Voltage  Regulator; LCSC Part #: C347406; JLCPCB Part Type: Extended Part
footprint TO 263-5 (D2PAK) (D2-PAK, 6-Pads, Body 8,9x9,9mm (max), IPC Low Density)
pins: 1 VIN (power), 2 OUT (power), 3 GND (power), 4 FB, 5 ~{ON}, 6 GND (power)

## IC_REG_LTM8023EV#PBF
designator U?, comment LTM8023EV#PBF
2A, 36V DC/DC Buck Module Reg; ComponentLink1Description: Datasheet; ComponentLink1URL: https://www.mouser.kr/datasheet/2/609/8023fj-2488599.pdf; LCSC Part #: C108022; JLCPCB Part Type: Extended Part
footprint LGA-50 (LTM8023EV#PBF) (LGA 50-Lead (11.25mm × 9.00mm × 2.82mm))
pins: A1 VOUT, A2 VOUT, A3 VOUT, A4 VOUT, A5 GND, A6 GND, A7 GND, B1 VOUT, B2 VOUT, B3 VOUT, B4 VOUT, B5 GND, B6 GND, B7 GND, C1 VOUT, C2 VOUT, C3 VOUT, C4 VOUT, C5 GND, C6 GND, C7 GND, D1 GND, D2 GND, D3 GND, D4 GND, D5 GND, D6 GND, D7 GND, E1 GND, E2 GND, E3 GND, E4 GND, E5 GND, E6 GND, E7 GND, F5 AUX, F6 GND, F7 SHARE, G1 VIN, G2 VIN, G3 VIN, G5 BIAS, G6 SYNC, G7 RT, H1 VIN, H2 VIN, H3 VIN, H5 RUN/SS, H6 PGOOD, H7 ADJ

## IC_REG_LTM8074IY#PBF
designator U?, comment LTM8074IY#PBF
1.2A, 40V DC/DC Buck Module Reg; LCSC Part #: C690772; JLCPCB Part Type: Extended Part
footprint IC_BGA-25 (BGA Package  25-Lead (4mm × 4mm × 1.82mm))
pins: A1 GND_1, A2 RUN, A3 VIN_1, A4 VIN_2, A5 GND_2, B1 PG, B2 GND_3, B3 GND_4, B4 GND_5, B5 RT, C1 TR/SS, C2 GND_6, C3 GND_7, C4 GND_8, C5 GND_9, D1 FB, D2 GND_10, D3 GND_11, D4 GND_12, D5 SYNC, E1 VOUT_1, E2 VOUT_2, E3 GND_13, E4 GND_14, E5 GND_15

## IC_REG_MIC5209YM-TR
designator U?, comment MIC5209YM-TR
Linear Voltage Regulator IC Positive Adjustable 1 Output 500mA 8-SOIC; LCSC Part #: C461593; JLCPCB Part Type: Extended Part
footprint IC_SOIC-8 (4.90x3.90mm) (SOIC, 8-Leads, Body 4.90x3.90mm, Pitch 1.27mm, IPC Medium Density)
pins: 1 EN, 2 VIN (power), 3 VOUT (power), 4 ADJ, 5 GND (power), 6 GND (power), 7 GND (power), 8 GND (power)

## IC_REG_MIC5528-3.3YMT-TR
designator U?, comment MIC5528-3.3YMT-TR
Linear Voltage Regulator IC Positive Fixed 1 Output 500mA 6-TDFN (1.2x1.2); LCSC Part #: C622490; JLCPCB Part Type: Extended Part
footprint IC_TDFN-6
pins: 1 VOUT, 2 VOUT, 3 GND, 4 EN, 5 NC, 6 VIN, 7 EP

## IC_REG_SY8003ADFC
designator U?, comment SY8003ADFC
High Efficiency 5.5V, 3A Continuous, 1MHz Synchronous Step Down Regulator; Manufacturer: Silergy; Manufacturer Part Number: High Efficiency 5.5V, 3A continuous, 1MHz; JLCPCB Part Type: Extended Part; LCSC Part #: C178236
footprint IC_DFN_2X2_8L (Footprint for SY8003ADFC (Silergy) (24.03.09))
pins: 1 FB (in), 2 PG (oc), 3 IN (power), 4 PGND (power), 5 NC, 6 LX (power), 7 EN (in), 8 SGND (power), 9 PGND (power)

## IC_REG_VTT_BD3539FVM-TR
designator U?, comment BD3539FVM-TR
1.0V to 5.5V, 1A 1ch / Termination Regulators for DDR-SDRAMs, 8-MSOP; LCSC Part #: C213437; JLCPCB Part Type: Extended Part
footprint IC_MSOP-8 (Footprint for BD3539FVM-TR (ROHM) (24.03.09))
pins: 1 GND, 2 EN, 3 VTTS, 4 VREF, 5 VDDQ, 6 VCC, 7 VTT_IN, 8 VTT

## IC_RS232_SP3232EEY
designator U?, comment SP3232EEY
235Kbps 3V~5.5V transceiver 2/2 TSSOP-16  RS232 ICs ROHS; LCSC Part #: C13482; JLCPCB Part Type: Basic Part
footprint TSSOP-16 (TSSOP, 16-Leads, Body 5.00x4.40mm, Pitch 0.65mm, IPC Medium Density)
pins: 1 C1+, 2 V+, 3 C1-, 4 C2+, 5 C2-, 6 V-, 7 T2_OUT, 8 R2_IN, 9 R2_OUT, 10 T2_IN, 11 T1_IN, 12 R1_OUT, 13 R1_IN, 14 T1_OUT, 15 GND, 16 VCC

## IC_RTC_DS3232MZ+TRL
designator U?, comment DS3232MZ+TRL
±5ppm, I2C Real-Time Clock with SRAM / 8SOIC
footprint SOIC-8 S8 (MAXIM) (SOIC, 8-Leads, Body 4.90x3.90mm, Pitch 1.27mm, IPC Medium Density)
pins: 1 32KHZ, 2 VCC, 3 ~{INT}/SQW, 4 RS~{T}, 5 GND, 6 VBAT, 7 SDA, 8 SCL

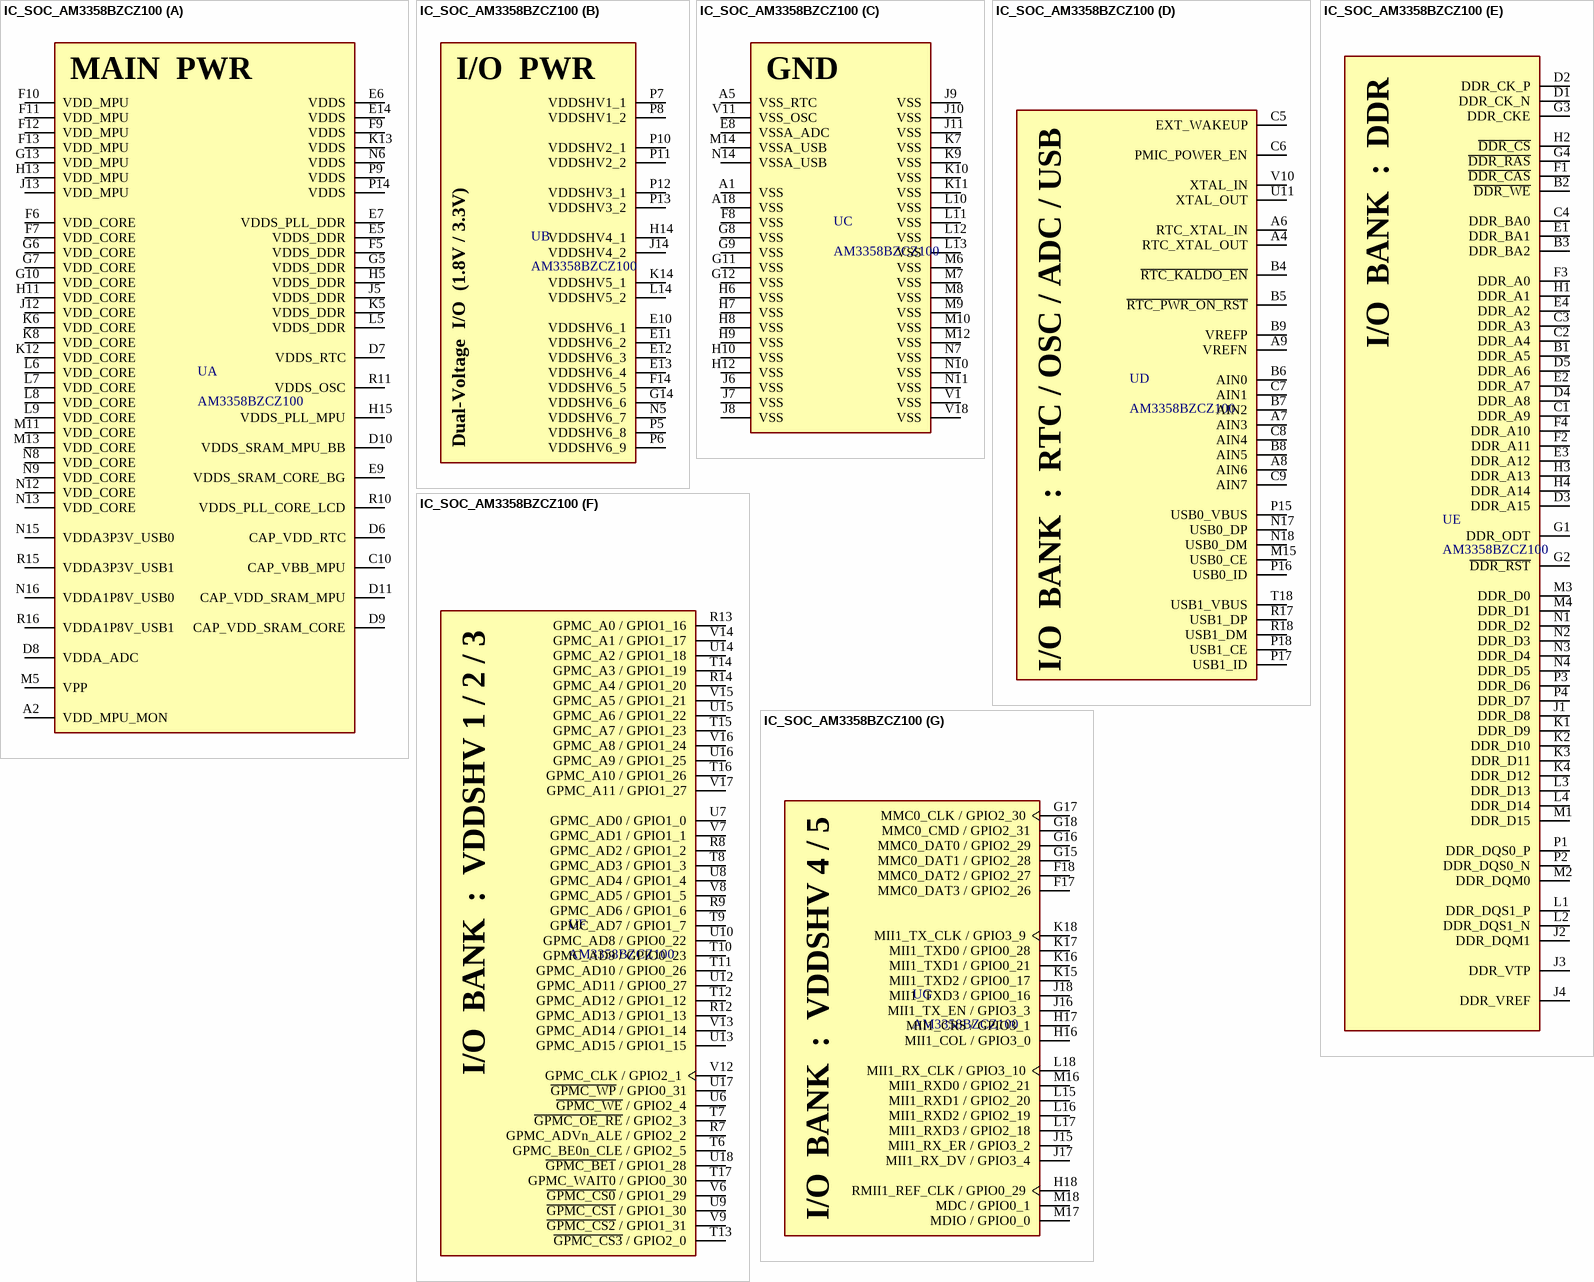
[diagram p12: symbol IC_SOC_AM3358BZCZ100]

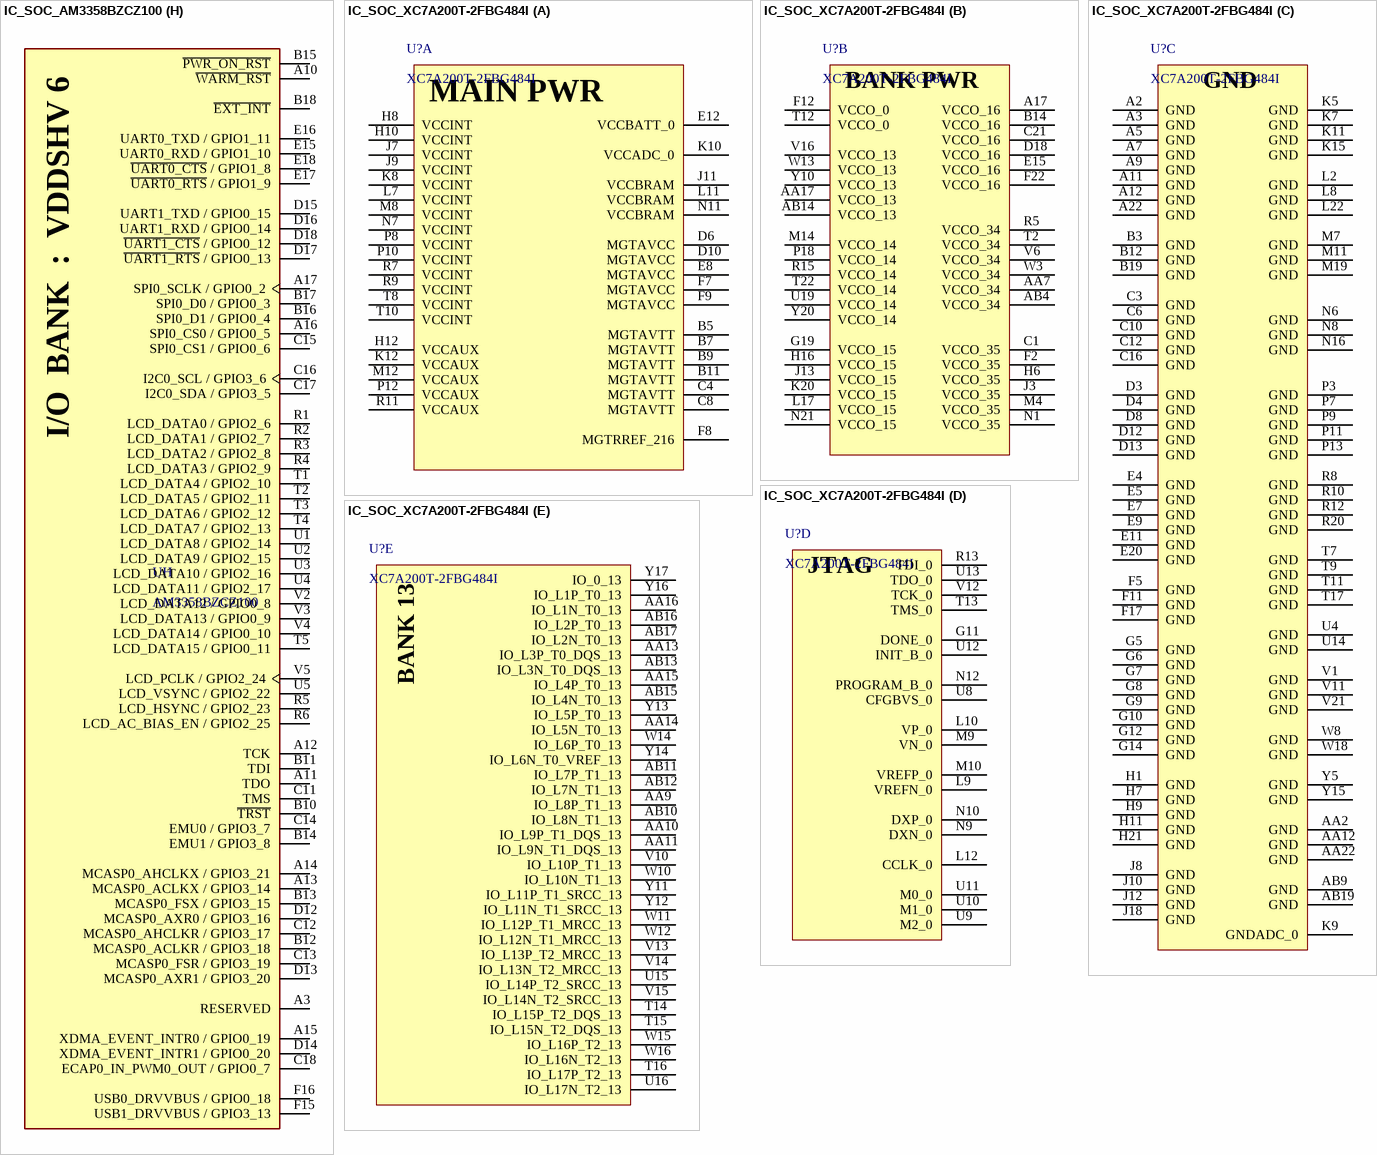
[diagram p13: symbols IC_SOC_AM3358BZCZ100 to IC_SOC_XC7A200T-2FBG484I]

## IC_SOC_AM3358BZCZ100
designator U, comment AM3358BZCZ100
ARM® Cortex®-A8 Microprocessor IC Sitara™ 1 Core, 32-Bit 1.0GHz 324-NFBGA (15x15); LCSC Part #: C73932; JLCPCB Part Type: Extended Part
footprint IC_SOC_AM3358BZCZ100 (NFBGA-324)
part A pins: A2 VDD_MPU_MON (power), C10 CAP_VBB_MPU (power), D6 CAP_VDD_RTC (power), D7 VDDS_RTC (power), D8 VDDA_ADC (power), D9 CAP_VDD_SRAM_CORE (power), D10 VDDS_SRAM_MPU_BB (power), D11 CAP_VDD_SRAM_MPU (power), E5 VDDS_DDR (power), E6 VDDS (power), E7 VDDS_PLL_DDR (power), E9 VDDS_SRAM_CORE_BG (power), E14 VDDS (power), F5 VDDS_DDR (power), F6 VDD_CORE (power), F7 VDD_CORE (power), F9 VDDS (power), F10 VDD_MPU (power), F11 VDD_MPU (power), F12 VDD_MPU (power), F13 VDD_MPU (power), G5 VDDS_DDR (power), G6 VDD_CORE (power), G7 VDD_CORE (power), G10 VDD_CORE (power), G13 VDD_MPU (power), H5 VDDS_DDR (power), H11 VDD_CORE (power), H13 VDD_MPU (power), H15 VDDS_PLL_MPU (power), J5 VDDS_DDR (power), J12 VDD_CORE (power), J13 VDD_MPU (power), K5 VDDS_DDR (power), K6 VDD_CORE (power), K8 VDD_CORE (power), K12 VDD_CORE (power), K13 VDDS (power), L5 VDDS_DDR (power), L6 VDD_CORE (power), L7 VDD_CORE (power), L8 VDD_CORE (power), L9 VDD_CORE (power), M5 VPP (power), M11 VDD_CORE (power), M13 VDD_CORE (power), N6 VDDS (power), N8 VDD_CORE (power), N9 VDD_CORE (power), N12 VDD_CORE (power), N13 VDD_CORE (power), N15 VDDA3P3V_USB0 (power), N16 VDDA1P8V_USB0 (power), P9 VDDS (power), P14 VDDS (power), R10 VDDS_PLL_CORE_LCD (power), R11 VDDS_OSC (power), R15 VDDA3P3V_USB1 (power), R16 VDDA1P8V_USB1 (power)
part B pins: E10 VDDSHV6_1 (power), E11 VDDSHV6_2 (power), E12 VDDSHV6_3 (power), E13 VDDSHV6_4 (power), F14 VDDSHV6_5 (power), G14 VDDSHV6_6 (power), H14 VDDSHV4_1 (power), J14 VDDSHV4_2 (power), K14 VDDSHV5_1 (power), L14 VDDSHV5_2 (power), N5 VDDSHV6_7 (power), P5 VDDSHV6_8 (power), P6 VDDSHV6_9 (power), P7 VDDSHV1_1 (power), P8 VDDSHV1_2 (power), P10 VDDSHV2_1 (power), P11 VDDSHV2_2 (power), P12 VDDSHV3_1 (power), P13 VDDSHV3_2 (power)
part C pins: A1 VSS (power), A5 VSS_RTC (power), A18 VSS (power), E8 VSSA_ADC (power), F8 VSS (power), G8 VSS (power), G9 VSS (power), G11 VSS (power), G12 VSS (power), H6 VSS (power), H7 VSS (power), H8 VSS (power), H9 VSS (power), H10 VSS (power), H12 VSS (power), J6 VSS (power), J7 VSS (power), J8 VSS (power), J9 VSS (power), J10 VSS (power), J11 VSS (power), K7 VSS (power), K9 VSS (power), K10 VSS (power), K11 VSS (power), L10 VSS (power), L11 VSS (power), L12 VSS (power), L13 VSS (power), M6 VSS (power), M7 VSS (power), M8 VSS (power), M9 VSS (power), M10 VSS (power), M12 VSS (power), M14 VSSA_USB (power), N7 VSS (power), N10 VSS (power), N11 VSS (power), N14 VSSA_USB (power), V1 VSS (power), V11 VSS_OSC (power), V18 VSS (power)
part D pins: A4 RTC_XTAL_OUT, A6 RTC_XTAL_IN, A7 AIN3, A8 AIN6, A9 VREFN, B4 ~{RTC_KALDO_EN}, B5 ~{RTC_PWR_ON_RST}, B6 AIN0, B7 AIN2, B8 AIN5, B9 VREFP, C5 EXT_WAKEUP, C6 PMIC_POWER_EN, C7 AIN1, C8 AIN4, C9 AIN7, M15 USB0_CE, N17 USB0_DP, N18 USB0_DM, P15 USB0_VBUS, P16 USB0_ID, P17 USB1_ID, P18 USB1_CE, R17 USB1_DP, R18 USB1_DM, T18 USB1_VBUS, U11 XTAL_OUT, V10 XTAL_IN
part E pins: B1 DDR_A5, B2 ~{DDR_WE}, B3 DDR_BA2, C1 DDR_A9, C2 DDR_A4, C3 DDR_A3, C4 DDR_BA0, D1 DDR_CK_N, D2 DDR_CK_P, D3 DDR_A15, D4 DDR_A8, D5 DDR_A6, E1 DDR_BA1, E2 DDR_A7, E3 DDR_A12, E4 DDR_A2, F1 ~{DDR_CAS}, F2 DDR_A11, F3 DDR_A0, F4 DDR_A10, G1 DDR_ODT, G2 ~{DDR_RST}, G3 DDR_CKE, G4 ~{DDR_RAS}, H1 DDR_A1, H2 ~{DDR_CS}, H3 DDR_A13, H4 DDR_A14, J1 DDR_D8, J2 DDR_DQM1, J3 DDR_VTP, J4 DDR_VREF, K1 DDR_D9, K2 DDR_D10, K3 DDR_D11, K4 DDR_D12, L1 DDR_DQS1_P, L2 DDR_DQS1_N, L3 DDR_D13, L4 DDR_D14, M1 DDR_D15, M2 DDR_DQM0, M3 DDR_D0, M4 DDR_D1, N1 DDR_D2, N2 DDR_D3, N3 DDR_D4, N4 DDR_D5, P1 DDR_DQS0_P, P2 DDR_DQS0_N, P3 DDR_D6, P4 DDR_D7
part F pins: R7 GPMC_ADVn_ALE / GPIO2_2, R8 GPMC_AD2 / GPIO1_2, R9 GPMC_AD6 / GPIO1_6, R12 GPMC_AD13 / GPIO1_13, R13 GPMC_A0 / GPIO1_16, R14 GPMC_A4 / GPIO1_20, T6 GPMC_BE0n_CLE / GPIO2_5, T7 ~{GPMC_OE_RE} / GPIO2_3, T8 GPMC_AD3 / GPIO1_3, T9 GPMC_AD7 / GPIO1_7, T10 GPMC_AD9 / GPIO0_23, T11 GPMC_AD10 / GPIO0_26, T12 GPMC_AD12 / GPIO1_12, T13 ~{GPMC_CS3} / GPIO2_0, T14 GPMC_A3 / GPIO1_19, T15 GPMC_A7 / GPIO1_23, T16 GPMC_A10 / GPIO1_26, T17 GPMC_WAIT0 / GPIO0_30, U6 ~{GPMC_WE} / GPIO2_4, U7 GPMC_AD0 / GPIO1_0, U8 GPMC_AD4 / GPIO1_4, U9 ~{GPMC_CS1} / GPIO1_30, U10 GPMC_AD8 / GPIO0_22, U12 GPMC_AD11 / GPIO0_27, U13 GPMC_AD15 / GPIO1_15, U14 GPMC_A2 / GPIO1_18, U15 GPMC_A6 / GPIO1_22, U16 GPMC_A9 / GPIO1_25, U17 ~{GPMC_WP} / GPIO0_31, U18 ~{GPMC_BE1} / GPIO1_28, V6 ~{GPMC_CS0} / GPIO1_29, V7 GPMC_AD1 / GPIO1_1, V8 GPMC_AD5 / GPIO1_5, V9 ~{GPMC_CS2} / GPIO1_31, V12 GPMC_CLK / GPIO2_1, V13 GPMC_AD14 / GPIO1_14, V14 GPMC_A1 / GPIO1_17, V15 GPMC_A5 / GPIO1_21, V16 GPMC_A8 / GPIO1_24, V17 GPMC_A11 / GPIO1_27
part G pins: F17 MMC0_DAT3 / GPIO2_26, F18 MMC0_DAT2 / GPIO2_27, G15 MMC0_DAT1 / GPIO2_28, G16 MMC0_DAT0 / GPIO2_29, G17 MMC0_CLK / GPIO2_30, G18 MMC0_CMD / GPIO2_31, H16 MII1_COL / GPIO3_0, H17 MII1_CRS / GPIO3_1, H18 RMII1_REF_CLK / GPIO0_29, J15 MII1_RX_ER / GPIO3_2, J16 MII1_TX_EN / GPIO3_3, J17 MII1_RX_DV / GPIO3_4, J18 MII1_TXD3 / GPIO0_16, K15 MII1_TXD2 / GPIO0_17, K16 MII1_TXD1 / GPIO0_21, K17 MII1_TXD0 / GPIO0_28, K18 MII1_TX_CLK / GPIO3_9, L15 MII1_RXD1 / GPIO2_20, L16 MII1_RXD2 / GPIO2_19, L17 MII1_RXD3 / GPIO2_18, L18 MII1_RX_CLK / GPIO3_10, M16 MII1_RXD0 / GPIO2_21, M17 MDIO / GPIO0_0, M18 MDC / GPIO0_1
part H pins: A3 RESERVED, A10 ~{WARM_RST}, A11 TDO, A12 TCK, A13 MCASP0_ACLKX / GPIO3_14, A14 MCASP0_AHCLKX / GPIO3_21, A15 XDMA_EVENT_INTR0 / GPIO0_19, A16 SPI0_CS0 / GPIO0_5, A17 SPI0_SCLK / GPIO0_2, B10 ~{TRST}, B11 TDI, B12 MCASP0_ACLKR / GPIO3_18, B13 MCASP0_FSX / GPIO3_15, B14 EMU1 / GPIO3_8, B15 ~{PWR_ON_RST}, B16 SPI0_D1 / GPIO0_4, B17 SPI0_D0 / GPIO0_3, B18 ~{EXT_INT}, C11 TMS, C12 MCASP0_AHCLKR / GPIO3_17, C13 MCASP0_FSR / GPIO3_19, C14 EMU0 / GPIO3_7, C15 SPI0_CS1 / GPIO0_6, C16 I2C0_SCL / GPIO3_6, C17 I2C0_SDA / GPIO3_5, C18 ECAP0_IN_PWM0_OUT / GPIO0_7, D12 MCASP0_AXR0 / GPIO3_16, D13 MCASP0_AXR1 / GPIO3_20, D14 XDMA_EVENT_INTR1 / GPIO0_20, D15 UART1_TXD / GPIO0_15, D16 UART1_RXD / GPIO0_14, D17 ~{UART1_RTS} / GPIO0_13, D18 ~{UART1_CTS} / GPIO0_12, E15 UART0_RXD / GPIO1_10, E16 UART0_TXD / GPIO1_11, E17 ~{UART0_RTS} / GPIO1_9, E18 ~{UART0_CTS} / GPIO1_8, F15 USB1_DRVVBUS / GPIO3_13, F16 USB0_DRVVBUS / GPIO0_18, R1 LCD_DATA0 / GPIO2_6, R2 LCD_DATA1 / GPIO2_7, R3 LCD_DATA2 / GPIO2_8, R4 LCD_DATA3 / GPIO2_9, R5 LCD_HSYNC / GPIO2_23, R6 LCD_AC_BIAS_EN / GPIO2_25, T1 LCD_DATA4 / GPIO2_10, T2 LCD_DATA5 / GPIO2_11, T3 LCD_DATA6 / GPIO2_12, T4 LCD_DATA7 / GPIO2_13, T5 LCD_DATA15 / GPIO0_11, U1 LCD_DATA8 / GPIO2_14, U2 LCD_DATA9 / GPIO2_15, U3 LCD_DATA10 / GPIO2_16, U4 LCD_DATA11 / GPIO2_17, U5 LCD_VSYNC / GPIO2_22, V2 LCD_DATA12 / GPIO0_8, V3 LCD_DATA13 / GPIO0_9, V4 LCD_DATA14 / GPIO0_10, V5 LCD_PCLK / GPIO2_24
part A text: MAIN  PWR
part B text: I/O  PWR; Dual-Voltage  I/O  (1.8V / 3.3V)
part C text: GND
part D text: I/O  BANK  :  RTC / OSC / ADC / USB
part E text: I/O  BANK  :  DDR
part F text: I/O  BANK  :  VDDSHV 1 / 2 / 3
part G text: I/O  BANK  :  VDDSHV 4 / 5
part H text: I/O  BANK  :  VDDSHV 6

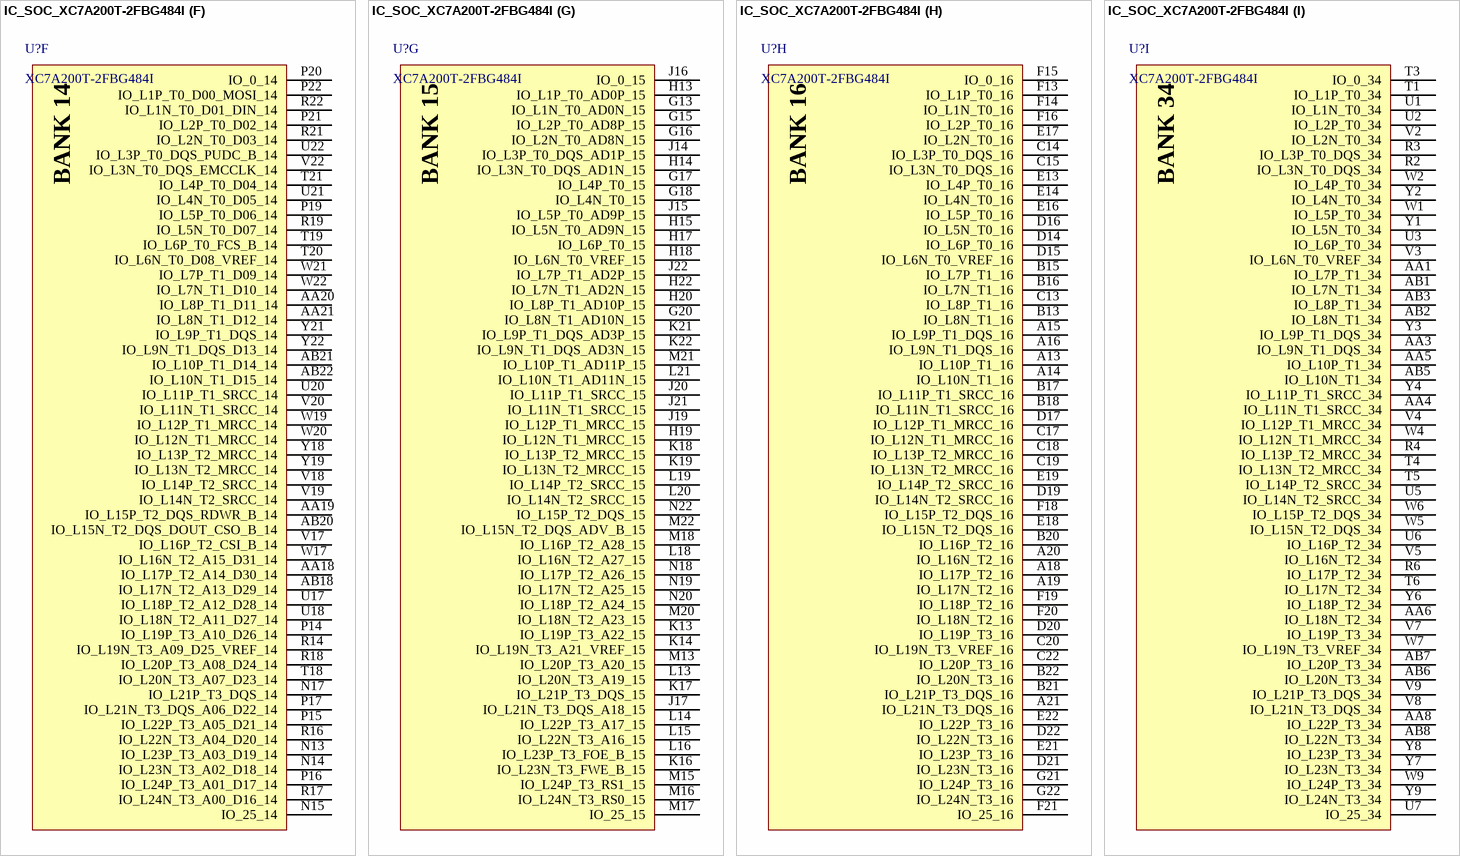
[diagram p14: symbol IC_SOC_XC7A200T-2FBG484I]

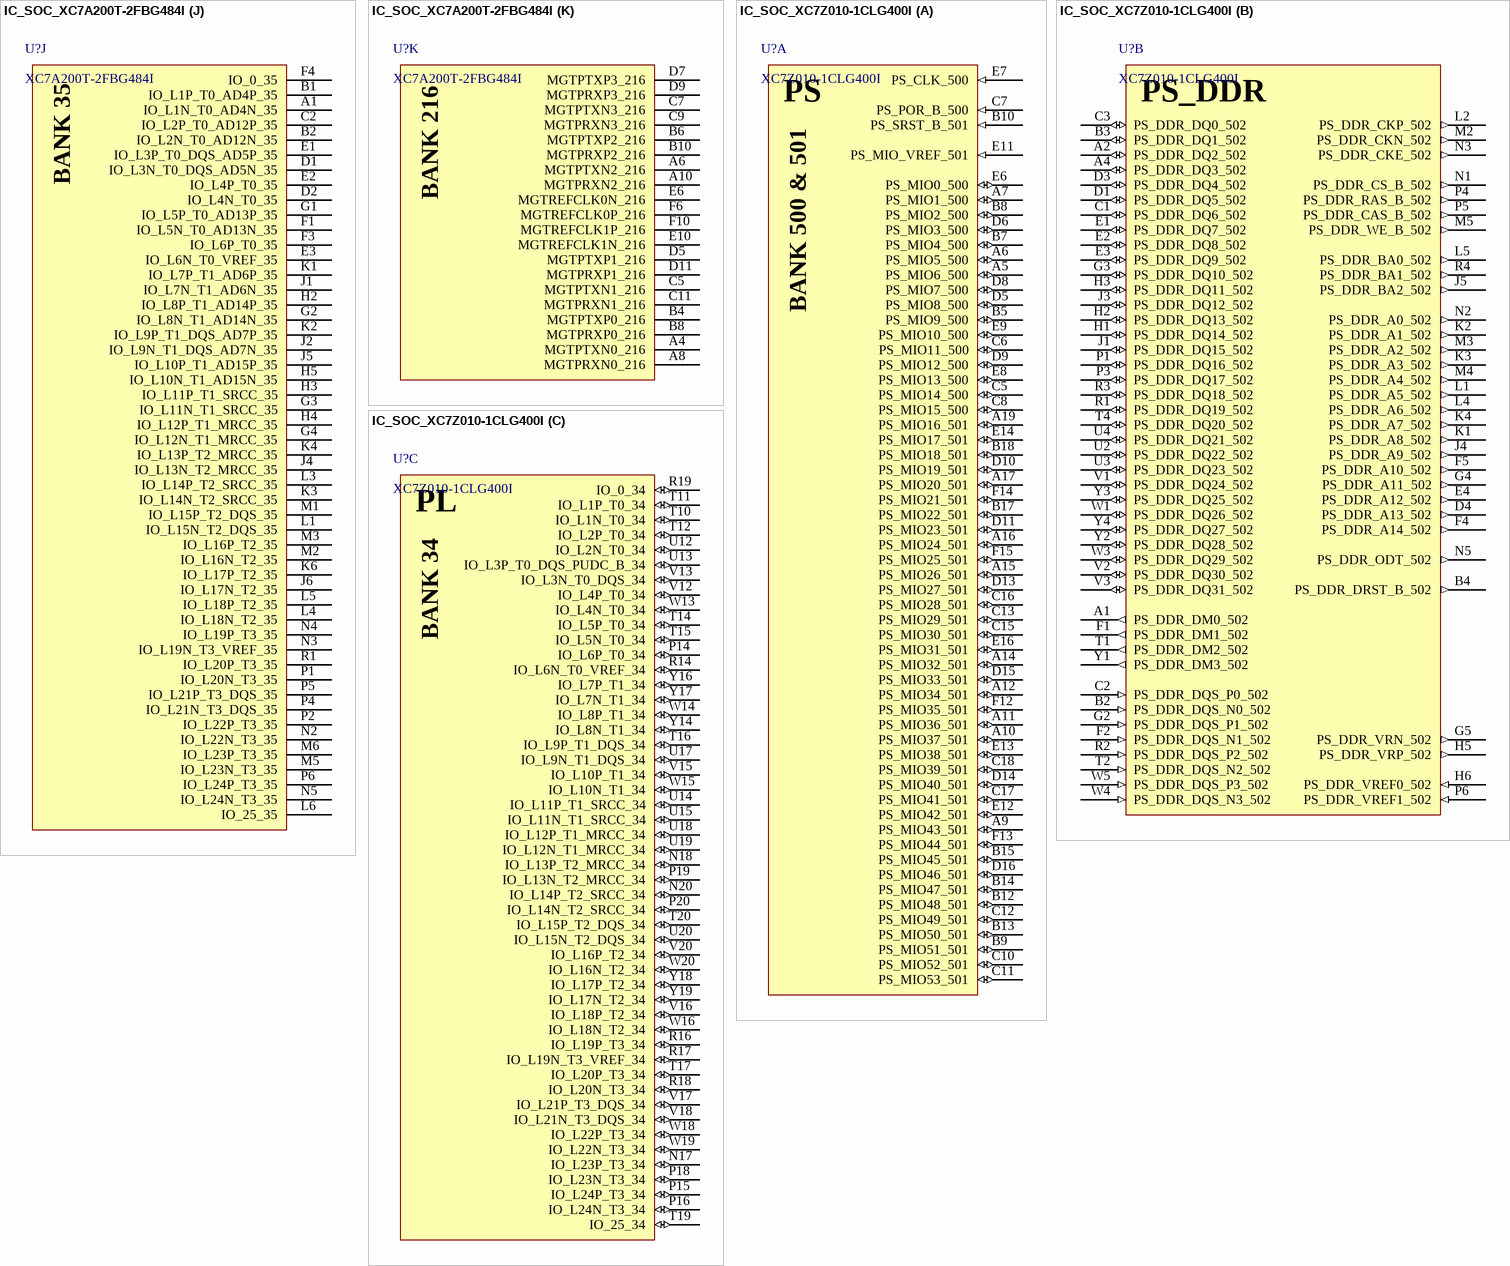
[diagram p15: symbols IC_SOC_XC7A200T-2FBG484I to IC_SOC_XC7Z010-1CLG400I]